# Altium schematic symbol library NOUMANPCBLIB.SchLib: 638 symbols (part 4 of 6)
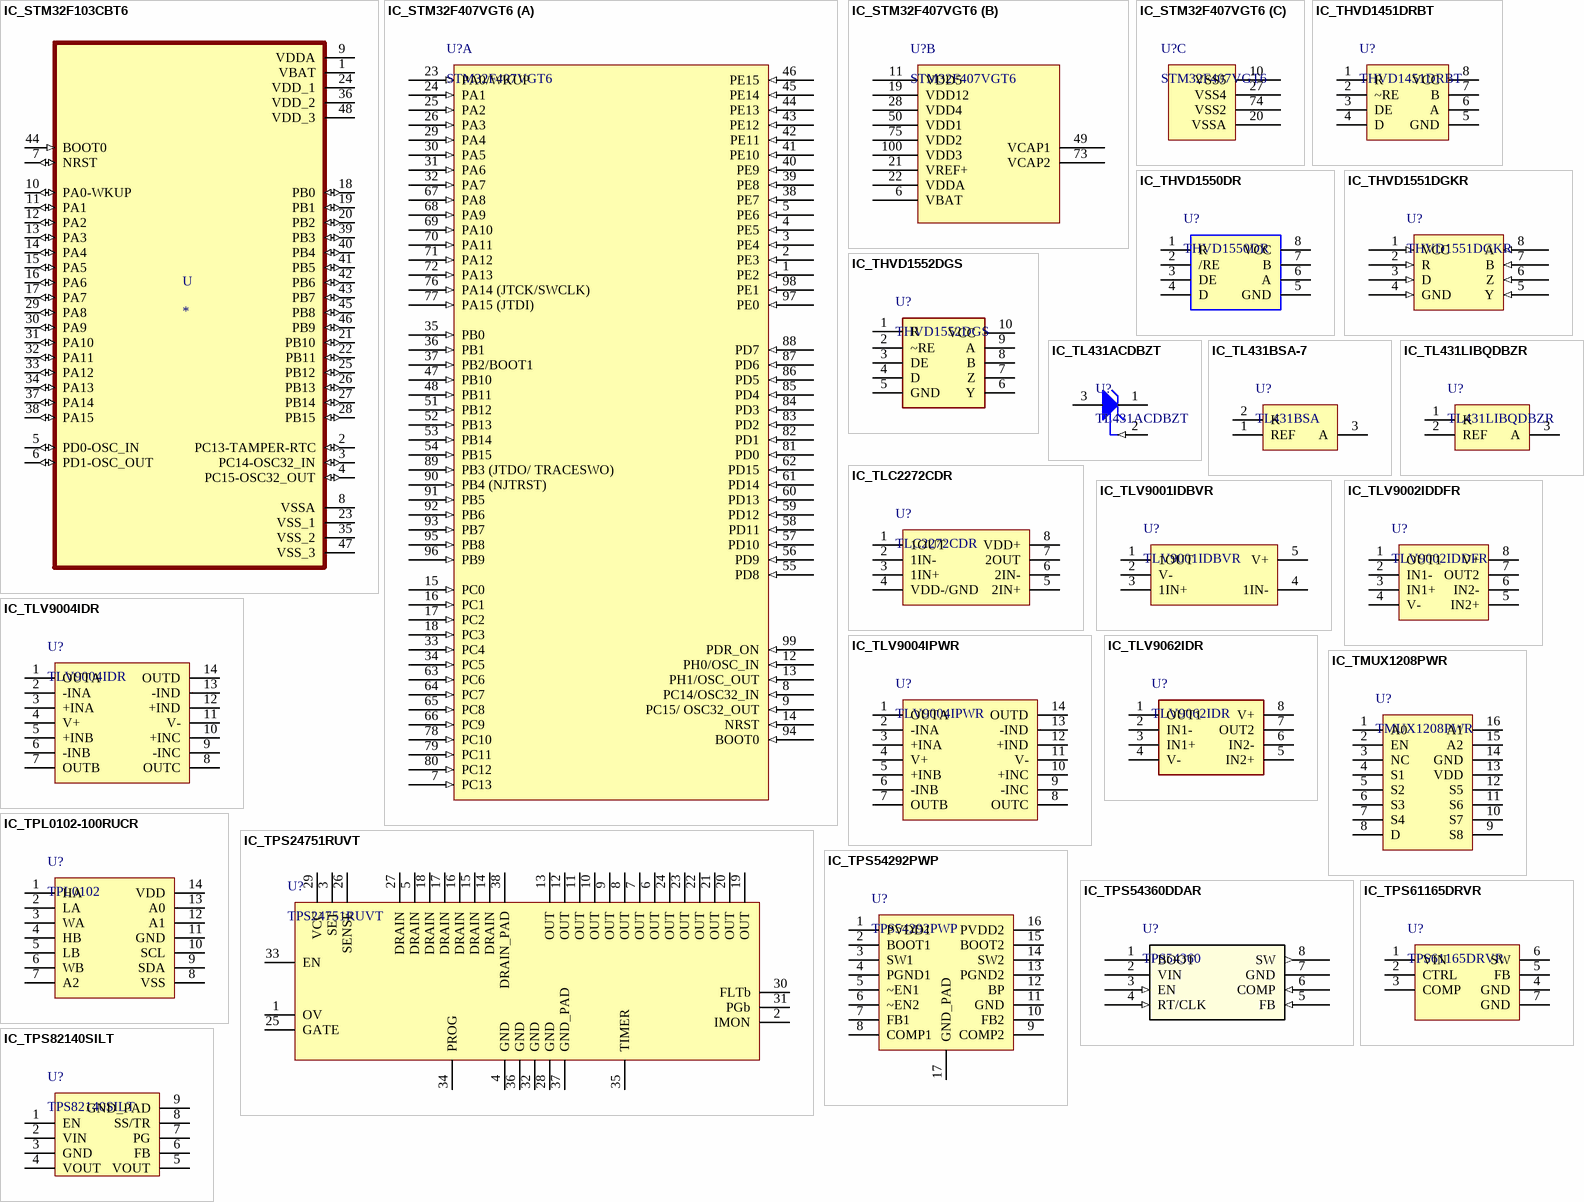
[diagram p21: symbols IC_STM32F103CBT6 to IC_TPS82140SILT]

## IC_TL431LIBQDBZR
designator U?, comment TL431LIBQDBZR
Shunt Voltage Reference IC 36V ±0.5% SOT-23-3; Manufacturer: Texas Instruments; Alternate Part Number-1: NA; Manufacturer Part Number: TL431LIBQDBZR; Case/Package: SOT-23-3; Supplier-1: Mouser; Supplier Part Number-1: 595-TL431LIBQDBZR
footprint SOT 23-3 (Case: SOT23)
pins: 1 K, 2 REF, 3 A

## IC_TLC2272CDR
designator U?, comment TLC2272CDR
General Purpose Amplifier 2 Circuit Rail-to-Rail 8-SOIC; Manufacturer: Texas Instruments; Alternate Part Number-1: NA; Manufacturer Part Number: TLC2272CDR; Case/Package: SOIC8; Supplier-1: LCSC; Supplier Part Number-1: C6979
footprint SOIC8_50_328_25X90_SMT (SOIC)
pins: 1 1OUT, 2 1IN-, 3 1IN+, 4 VDD-/GND, 5 2IN+, 6 2IN-, 7 2OUT, 8 VDD+

## IC_TLV9001IDBVR
designator U?, comment TLV9001IDBVR
CMOS Amplifier 1 Circuit Rail-to-Rail SOT-23-5; Manufacturer: Texas Instruments; Alternate Part Number-1: NA; Manufacturer Part Number: TLV9001IDBVR; Case/Package: SOT-23-5; Supplier-1: Mouser; Supplier Part Number-1: TLV9001IDBVR
footprint SOT23-5 (CASE: SOT)
pins: 1 1OUT, 2 V-, 3 1IN+, 4 1IN-, 5 V+

## IC_TLV9002IDDFR
designator U?, comment TLV9002IDDFR
Operational Amplifiers - Op Amps 2-Channel, 1MHz, RRIO, 1.8V to 5.5V Operational Amplifier for Cost-Optimized Systems 8-SOT-23-THIN -40 to 125; Manufacturer: Texas Instruments; Alternate Part Number-1: NA; Manufacturer Part Number: TLV9002IDDFR; Case/Package: SOT-23-8; Supplier-1: Mouser; Supplier Part Number-1: 595-TLV9002IDDFR
footprint SOT23-8 (Case-SOT)
pins: 1 OUT1, 2 IN1-, 3 IN1+, 4 V-, 5 IN2+, 6 IN2-, 7 OUT2, 8 V+

## IC_TLV9004IDR
designator U?, comment TLV9004IDR
CMOS Amplifier 4 Circuit Rail-to-Rail 14-SOIC; Manufacturer: Texas Instruments; Alternate Part Number-1: NA; Manufacturer Part Number: TLV9004IDR; Case/Package: 14-SOIC; Supplier-1: Digikey; Supplier Part Number-1: 296-51826-1-ND
footprint SOIC14_50_285_80X25_SMT (SOIC, 14-Leads, Body 8.56x3.90mm, Pitch 1.27mm, IPC Medium Density)
pins: 1 OUTA, 2 -INA, 3 +INA, 4 V+, 5 +INB, 6 -INB, 7 OUTB, 8 OUTC, 9 -INC, 10 +INC, 11 V-, 12 +IND, 13 -IND, 14 OUTD

## IC_TLV9004IPWR
designator U?, comment TLV9004IPWR
CMOS Amplifier 4 Circuit Rail-to-Rail TSSOP14; Manufacturer: Texas Instruments; Alternate Part Number-1: NA; Manufacturer Part Number: TLV9004IPWR; Case/Package: TSSOP14; Supplier-1: MOUSER; Supplier Part Number-1: TLV9004IPWR
footprint TSSOP14_25.6_296_15X55_SMD (CASE: TSSOP)
pins: 1 OUTA, 2 -INA, 3 +INA, 4 V+, 5 +INB, 6 -INB, 7 OUTB, 8 OUTC, 9 -INC, 10 +INC, 11 V-, 12 +IND, 13 -IND, 14 OUTD

## IC_TLV9062IDR
designator U?, comment TLV9062IDR
CMOS Amplifier 2 Circuit Rail-to-Rail 8-VSSOP; Manufacturer: Texas Instruments; Alternate Part Number-1: NA; Manufacturer Part Number: TLV9062IDR; Case/Package: SOIC8; Supplier-1: MOUSER; Supplier Part Number-1: TLV9062IDR
footprint SOIC8_50_328_25X90_SMT (SOIC)
pins: 1 OUT1, 2 IN1-, 3 IN1+, 4 V-, 5 IN2+, 6 IN2-, 7 OUT2, 8 V+

## IC_TMUX1208PWR
designator U?, comment TMUX1208PWR
1 Circuit IC Switch 8:1 3Ohm (Typ) 16-TSSOP; Manufacturer: Texas Instruments; Alternate Part Number-1: NA; Manufacturer Part Number: TMUX1208PWR; Case/Package: TSSOP-16; Supplier-1: Mouser; Supplier Part Number-1: 595-TMUX1208PWR
footprint TSSOP16_25-59_294_54X14_SMT (TSOP, 16-Leads, Body 5.00x4.40mm, Pitch 0.65mm)
pins: 1 A0, 2 EN, 3 NC, 4 S1, 5 S2, 6 S3, 7 S4, 8 D, 9 S8, 10 S7, 11 S6, 12 S5, 13 VDD, 14 GND, 15 A2, 16 A1

## IC_TPL0102-100RUCR
designator U?, comment TPL0102
Digital Potentiometer 100k Ohm 2 Circuit 256 Taps I²C Interface 14-TSSOP; Manufacturer: Texas Instruments; Manufacturer Part Number: TPL0102-100QPWREP; Alternate Part Number-1: NA; Case/Package: TSSOP14; Supplier-1: Mouser; Supplier Part Number-1: 595-TPL0102100QPWREP
footprint TSSOP14_25.6_296_15X55_SMD (CASE: TSSOP)
pins: 1 HA, 2 LA, 3 WA, 4 HB, 5 LB, 6 WB, 7 A2, 8 VSS, 9 SDA, 10 SCL, 11 GND, 12 A1, 13 A0, 14 VDD

## IC_TPS24751RUVT
designator U?, comment TPS24751RUVT
Hot Swap Controller 1 Channel General Purpose 36-VQFN (7x3.5); Manufacturer: Texas Instruments; Alternate Part Number-1: NA; Manufacturer Part Number: TPS24751RUVT; Case/Package: 36-VFQFN Exposed Pad; Supplier-1: Arrow; Supplier Part Number-1: TPS24751RUVT
footprint VQFN36_19.6_332_11X39_SMD (QFN, 36-Leads, Body 7.15x3.65mm, Pitch 0.50mm, Thermal Pad 6.30x2.20mm, IPC Medium Density)
pins: 1 OV, 2 IMON, 3 SET, 4 GND, 5 DRAIN, 6 OUT, 7 OUT, 8 OUT, 9 OUT, 10 OUT, 11 OUT, 12 OUT, 13 OUT, 14 DRAIN, 15 DRAIN, 16 DRAIN, 17 DRAIN, 18 DRAIN, 19 OUT, 20 OUT, 21 OUT, 22 OUT, 23 OUT, 24 OUT, 25 GATE, 26 SENSE, 27 DRAIN, 28 GND, 29 VCC, 30 FLTb, 31 PGb, 32 GND, 33 EN, 34 PROG, 35 TIMER, 36 GND, 37 GND_PAD, 38 DRAIN_PAD

## IC_TPS54292PWP
designator U?, comment TPS54292PWP
Buck Switching Regulator IC Positive Adjustable 0.8V 2 Output 1.5A, 2.5A 16-PowerTSSOP (0.173", 4.40mm Width); Manufacturer: Texas Instruments; Alternate Part Number-1: NA; Manufacturer Part Number: TPS54292PWP; Case/Package: HTSSOP EP-16; Supplier-1: MOUSER; Supplier Part Number-1: TPS54292PWP
footprint HTSSOP-16_26_307_59X17_SMD (16-PowerTSSOP)
pins: 1 PVDD1, 2 BOOT1, 3 SW1, 4 PGND1, 5 ~EN1, 6 ~EN2, 7 FB1, 8 COMP1, 9 COMP2, 10 FB2, 11 GND, 12 BP, 13 PGND2, 14 SW2, 15 BOOT2, 16 PVDD2, 17 GND_PAD

## IC_TPS54360DDAR
designator U?, comment TPS54360
Buck, Split Rail Switching Regulator IC Positive Adjustable 0.8V 1 Output 3.5A 8-PowerSOIC (0.154", 3.90mm Width); Manufacturer: Texas Instruments; Manufacturer Part Number: TPS54360DDAR; Alternate Part Number-1: NA; Case/Package: SOIC8; Supplier-1: LCSC; Supplier Part Number-1: C44377
footprint SOIC8_50_328_25X90_SMT (SOIC)
pins: 1 BOOT, 2 VIN (power), 3 EN (in), 4 RT/CLK (in), 5 FB (in), 6 COMP (in), 7 GND (power), 8 SW (out)

## IC_TPS61165DRVR
designator U?, comment TPS61165DRVR
LED Driver IC 1 Output DC DC Regulator Step-Up (Boost) PWM Dimming 1.2A (Switch) 6-WSON (2x2); Manufacturer: Texas Instruments; Alternate Part Number-1: NA; Manufacturer Part Number: TPS61165DRVR; Case/Package: WSON-6; Supplier-1: Digikey; Supplier Part Number-1: TPS61165DRVR
footprint WSON-6_25_126_23X13_SMD (diode)
pins: 1 VIN, 2 CTRL, 3 COMP, 4 GND, 5 FB, 6 SW, 7 GND

## IC_TPS82140SILT
designator U?, comment TPS82140SILT
Non-Isolated PoL Module DC DC Converter 1 Output 0.9 ~ 6V 2A 3V - 17V Input; Manufacturer: Texas Instruments; Alternate Part Number-1: NA; Manufacturer Part Number: TPS82140SILT; Case/Package: SIL0008D; Supplier-1: RS COMP; Supplier Part Number-1: TPS82140SILT
footprint SIL0008D_25.6_118_19x15_SMD (8-LDFN Exposed Pad, Module)
pins: 1 EN, 2 VIN, 3 GND, 4 VOUT, 5 VOUT, 6 FB, 7 PG, 8 SS/TR, 9 GND_PAD

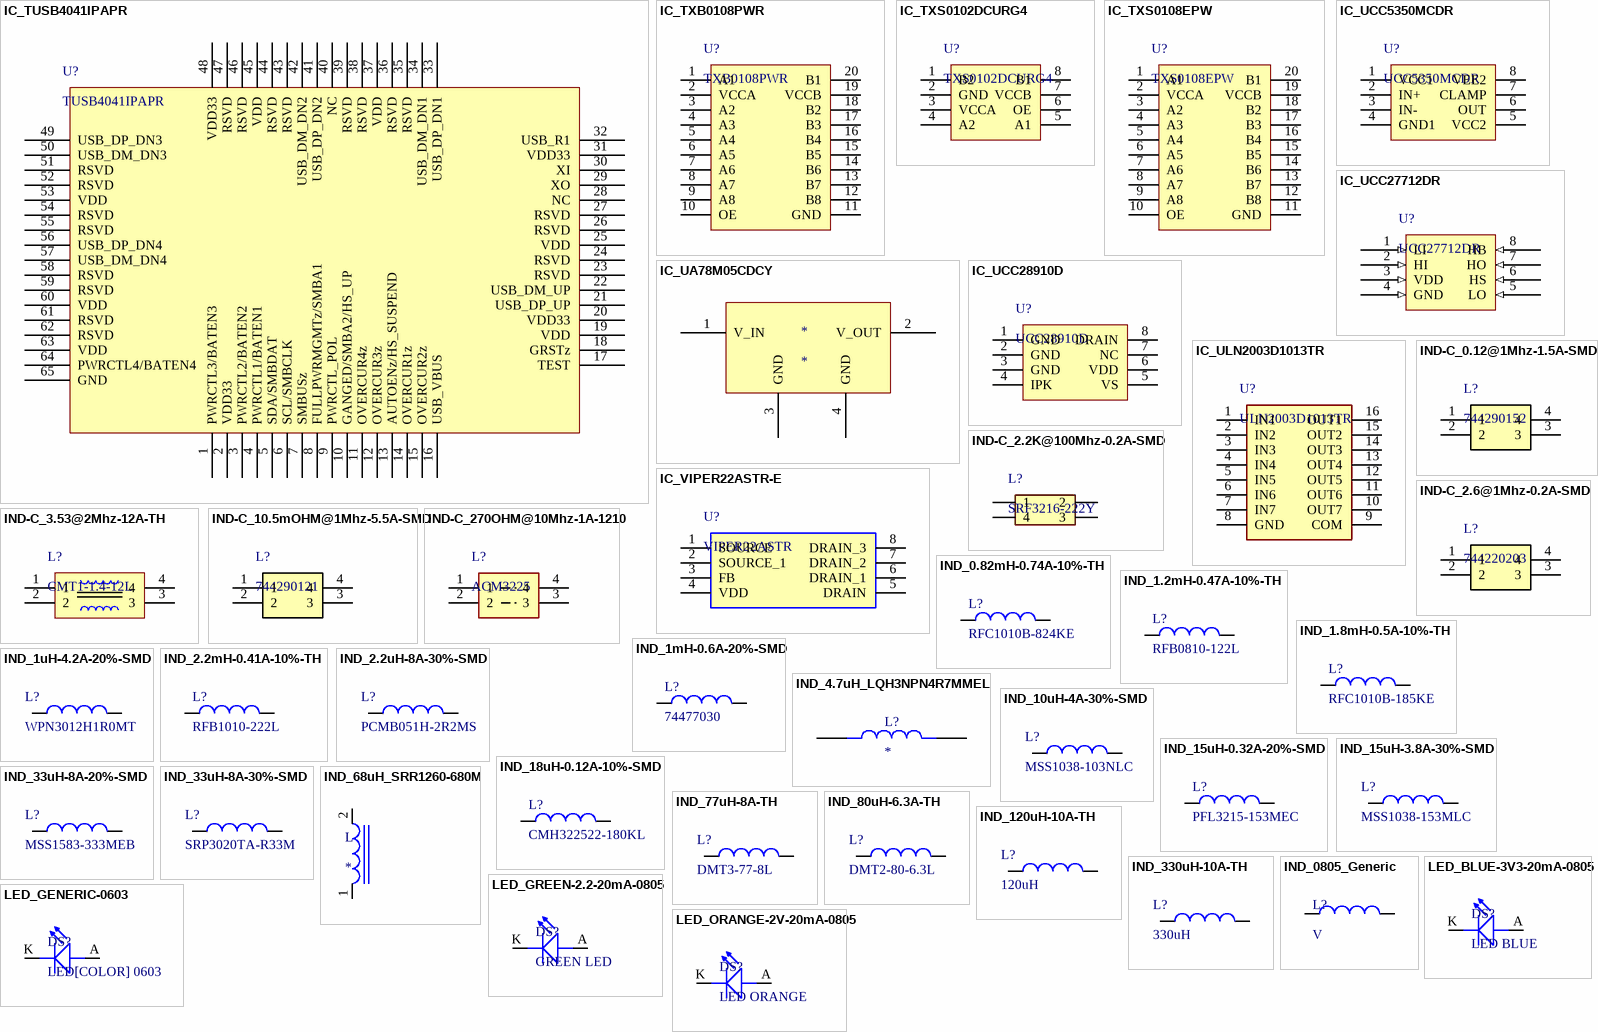
[diagram p11: symbols IC_TUSB4041IPAPR to LED_ORANGE-2V-20mA-0805]

## IC_TUSB4041IPAPR
designator U?, comment TUSB4041IPAPR
USB Hub Controller USB 2.0 USB Interface 64-HTQFP (10x10); Manufacturer: Texas Instruments; Alternate Part Number-1: NA; Manufacturer Part Number: TUSB4041IPAPR; Case/Package: 64-HTQFP (10x10); Supplier-1: LCSC; Supplier Part Number-1: C192089
footprint HTQFP-64_19.6_531_59X11_SMD (HTQFP package)
pins: 1 PWRCTL3/BATEN3, 2 VDD33, 3 PWRCTL2/BATEN2, 4 PWRCTL1/BATEN1, 5 SDA/SMBDAT, 6 SCL/SMBCLK, 7 SMBUSz, 8 FULLPWRMGMTz/SMBA1, 9 PWRCTL_POL, 10 GANGED/SMBA2/HS_UP , 11 OVERCUR4z, 12 OVERCUR3z, 13 AUTOENz/HS_SUSPEND, 14 OVERCUR1z, 15 OVERCUR2z , 16 USB_VBUS, 17 TEST, 18 GRSTz, 19 VDD, 20 VDD33, 21 USB_DP_UP, 22 USB_DM_UP, 23 RSVD, 24 RSVD, 25 VDD, 26 RSVD, 27 RSVD, 28 NC, 29 XO, 30 XI, 31 VDD33, 32 USB_R1, 33 USB_DP_DN1, 34 USB_DM_DN1, 35 RSVD, 36 RSVD, 37 VDD, 38 RSVD, 39 RSVD, 40 NC, 41 USB_DP_DN2, 42 USB_DM_DN2, 43 RSVD, 44 RSVD, 45 VDD, 46 RSVD, 47 RSVD, 48 VDD33, 49 USB_DP_DN3, 50 USB_DM_DN3, 51 RSVD, 52 RSVD, 53 VDD, 54 RSVD, 55 RSVD, 56 USB_DP_DN4, 57 USB_DM_DN4, 58 RSVD, 59 RSVD, 60 VDD, 61 RSVD, 62 RSVD, 63 VDD, 64 PWRCTL4/BATEN4, 65 GND

## IC_TXB0108PWR
designator U?, comment TXB0108PWR
Voltage Level Translator Bidirectional 1 Circuit 8 Channel 100Mbps 20-TSSOP; Manufacturer: Texas Instruments; Alternate Part Number-1: NA; Manufacturer Part Number: TXB0108PWR; Case/Package: TSSOP20; Supplier-1: Mouser; Supplier Part Number-1: 595-TXB0108PWR
footprint TSSOP20_25-59_292_12X65_SMT
pins: 1 A1, 2 VCCA, 3 A2, 4 A3, 5 A4, 6 A5, 7 A6, 8 A7, 9 A8, 10 OE, 11 GND, 12 B8, 13 B7, 14 B6, 15 B5, 16 B4, 17 B3, 18 B2, 19 VCCB, 20 B1

## IC_TXS0102DCURG4
designator U?, comment TXS0102DCURG4
Voltage Level Translator Bidirectional 1 Circuit 2 Channel 24Mbps 8-VSSOP; Manufacturer: Texas Instruments; Alternate Part Number-1: NA; Manufacturer Part Number: TXS0102DCURG4; Case/Package: VSSOP8; Supplier-1: Mouser; Supplier Part Number-1: TXS0102DCURG4
footprint VSSOP-8_19.6_157_33X11_SMD (VSSOP)
pins: 1 B2, 2 GND, 3 VCCA, 4 A2, 5 A1, 6 OE, 7 VCCB, 8 B1

## IC_TXS0108EPW
designator U?, comment TXS0108EPW
TXS0108E 8-Bit Bi-directional, Level-Shifting, Voltage Translator / for Open-Drain and Push-Pull Applications; Manufacturer: Texas Instruments; Alternate Part Number-1: NA; Manufacturer Part Number: TXS0108EPW; Case/Package: TSSOP-20; Supplier-1: Mouser; Supplier Part Number-1: 595-TXS0108EPWRG4
footprint TSSOP20_25-59_292_12X65_SMT
pins: 1 A1, 2 VCCA, 3 A2, 4 A3, 5 A4, 6 A5, 7 A6, 8 A7, 9 A8, 10 OE, 11 GND, 12 B8, 13 B7, 14 B6, 15 B5, 16 B4, 17 B3, 18 B2, 19 VCCB, 20 B1

## IC_UA78M05CDCY
designator *
Linear Voltage Regulator IC Positive Fixed 1 Output 500mA SOT-223-4 (in max 25v) (out 5v); Manufacturer Part Number: UA78M05CDCYR; Manufacturer: Texas Instruments; Supplier-1: Digi-key; Supplier Part Number-1: 296-12290-2-ND - Tape & Reel (TR)
footprint SOT230P700X187-4N (SOT223, 4-Leads, Body 6.50x7.00mm (avg), Pitch 2.30mm, IPC Medium Density)
pins: 1 V_IN, 2 V_OUT, 3 GND, 4 GND

## IC_UCC5350MCDR
designator U?, comment UCC5350MCDR
Gate Driver Capacitive Coupling 3000Vrms 1 Channel 8-SOIC; Manufacturer: Texas Instruments; Alternate Part Number-1: NA; Manufacturer Part Number: UCC5350MCDR; Case/Package: SOIC8; Supplier-1: MOUSER; Supplier Part Number-1: UCC5350MCDR
footprint SOIC8_50_328_25X90_SMT (SOIC)
pins: 1 VCC1, 2 IN+, 3 IN-, 4 GND1, 5 VCC2, 6 OUT, 7 CLAMP, 8 VEE2

## IC_UCC27712DR
designator U?, comment UCC27712DR
Half-Bridge Gate Driver IC 8-SOIC; Manufacturer: Texas Instruments; Alternate Part Number-1: NA; Manufacturer Part Number: UCC27712DR; Case/Package: SOIC8; Supplier-1: LCSC; Supplier Part Number-1: C269870
footprint SOIC8_50_328_25X90_SMT (SOIC)
pins: 1 LI (in), 2 HI (in), 3 VDD (in), 4 GND (in), 5 LO (in), 6 HS (in), 7 HO (in), 8 HB (in)

## IC_UCC28910D
designator U?, comment UCC28910D
Converter Offline Flyback Topology 420Hz ~ 115kHz 7-SOIC; Manufacturer: Texas Instruments; Alternate Part Number-1: NA; Manufacturer Part Number: UCC28910D; Case/Package: SOIC8; Supplier-1: ARROW; Supplier Part Number-1: UCC28910D
footprint SOIC8_50_328_25X90_SMT (SOIC)
pins: 1 GND, 2 GND, 3 GND, 4 IPK, 5 VS, 6 VDD, 7 NC, 8 DRAIN

## IC_ULN2003D1013TR
designator U?, comment ULN2003D1013TR
Bipolar (BJT) Transistor Array 7 NPN Darlington 50V 500mA Surface Mount 16-SO; Manufacturer: STMicroelectronics; Alternate Part Number-1: NA; Manufacturer Part Number: ULN2003D1013TR; Case/Package: SOIC16; Supplier-1: LCSC; Supplier Part Number-1: C61273
footprint SOIC16_50_284_25X90_SMT
pins: 1 IN1, 2 IN2, 3 IN3, 4 IN4, 5 IN5, 6 IN6, 7 IN7, 8 GND, 9 COM, 10 OUT7, 11 OUT6, 12 OUT5, 13 OUT4, 14 OUT3, 15 OUT2, 16 OUT1

## IC_VIPER22ASTR-E
designator U?, comment VIPER22ASTR
Converter Offline Flyback Topology 60kHz 8-SOIC; Manufacturer: STMicroelectronics; Manufacturer Part Number: VIPER22ASTR-E; Alternate Part Number-1: NA; Case/Package: SOIC8; Supplier-1: LCSC; Supplier Part Number-1: C9216
footprint SOIC8_50_328_25X90_SMT (SOIC)
pins: 1 SOURCE, 2 SOURCE_1, 3 FB, 4 VDD (power), 5 DRAIN, 6 DRAIN_1, 7 DRAIN_2, 8 DRAIN_3

## IND-C_0.12@1Mhz-1.5A-SMD
designator L?, comment 744290152
1.5mH @ 10kHz 2 Line Common Mode Choke Surface Mount 1.5A DCR 120mOhm; Manufacturer: WE; Alternate Part Number-1: NA; Manufacturer Part Number: 744290152; Case/Package: SMD; Supplier-1: WURTH; Supplier Part Number-1: 744290152
footprint IND_100_705_63X110_SMD (CASE: SMD)
pins: 1, 2, 3, 4

## IND-C_2.2K@100Mhz-0.2A-SMD
designator L?, comment SRF3216-222Y
2 Line Common Mode Choke Surface Mount 2.2 kOhms @ 100MHz 200mA DCR 1.2Ohm; Manufacturer: WE; Alternate Part Number-1: NA; Manufacturer Part Number: SRF3216-222Y; Case/Package: SMD; Supplier-1: ARROW; Supplier Part Number-1: SRF3216-222Y
footprint IND_39.3_150_23X35_SMD (Inductor)
pins: 1, 2, 3, 4

## IND-C_2.6@1Mhz-0.2A-SMD
designator L?, comment 744220203
WE-SL2 SMD inductance with ferrite core, 4.7 mH / ± 50%, 100kHz 500mA; Manufacturer: Bourns; Alternate Part Number-1: NA; Manufacturer Part Number: 744220203; Case/Package: SMD; Supplier-1: WURTH; Supplier Part Number-1: 744220203
footprint IND_100_410_59X110_SMD (CASE: SMD)
pins: 1, 2, 3, 4

## IND-C_3.53@2Mhz-12A-TH
designator L?, comment CMT1-1.4-12L
IND-C_3.53@2Mhz-12A-TH; Manufacturer: WE; Alternate Part Number-1: NA; Manufacturer Part Number: CMT1-1.4-12L; Case/Package: TH; Supplier-1: COILCRAFT SAMPLE; Supplier Part Number-1: CMT1-1.4-12L
footprint CMT1_1.4_12L
pins: 1, 2, 3, 4

## IND-C_10.5mOHM@1Mhz-5.5A-SMD
designator L?, comment 744290121
120µH @ 10kHz 2 Line Common Mode Choke Surface Mount 5.5A DCR 10.5mOhm; Manufacturer: TDK; Alternate Part Number-1: NA; Manufacturer Part Number: 744290121; Case/Package: SMD; Supplier-1: WURTH; Supplier Part Number-1: 744290121
footprint IND_100_705_63X110_SMD (CASE: SMD)
pins: 1, 2, 3, 4

## IND-C_270OHM@10Mhz-1A-1210
designator L?, comment ACM3225
2 Line Common Mode Choke Surface Mount 600 Ohms @ 100MHz 1A DCR 200mOhm; Manufacturer: Coilcraft; Manufacturer Part Number: ACM3225-601-2P-T001; Alternate Part Number-1: NA; Case/Package: 1210; Supplier-1: Coilcraft; Supplier Part Number-1: ACM3225-601-2P-T001
footprint IND_1206_SMD_4PIN (CASE: SMD)
pins: 1, 2, 3, 4

## IND_0.82mH-0.74A-10%-TH
designator L?, comment RFC1010B-824KE
Fixed Inductors AEC-Q200 1200uH 100kHz 2.1mOhms; Manufacturer: Coilcraft; Alternate Part Number-1: NA; Manufacturer Part Number: RFC1010B-824KE; Case/Package: TH; Supplier-1: COILCRAFT SAMPLE; Supplier Part Number-1: RFC1010B-824KE
footprint IND_P236_D433_H452_70X59_TH (Inductor)
pins: 1, 2

## IND_1.2mH-0.47A-10%-TH
designator L?, comment RFB0810-122L
Fixed Inductors RFB0810 AEC-Q200 100kHz 2.8mOhms; Manufacturer: Coilcraft; Alternate Part Number-1: NA; Manufacturer Part Number: RFB0810-122L; Case/Package: TH; Supplier-1: COILCRAFT SAMPLE; Supplier Part Number-1: RFB0810-122L
footprint IND_P220_D378_H452_70X59_TH (Inductor)
pins: 1, 2

## IND_1.8mH-0.5A-10%-TH
designator L?, comment RFC1010B-185KE
Fixed Inductors AEC-Q200 1800uH 100kHz 3.5mOhms; Manufacturer: Coilcraft; Alternate Part Number-1: NA; Manufacturer Part Number: RFC1010B-185KE; Case/Package: TH; Supplier-1: COILCRAFT SAMPLE; Supplier Part Number-1: RFC1010B-185KE
footprint IND_P236_D433_H452_70X59_TH (Inductor)
pins: 1, 2

## IND_1mH-0.6A-20%-SMD
designator L?, comment 74477030
1mH Shielded Wirewound Inductor 600mA 1.82Ohm Max Nonstandard; Manufacturer: Coilcraft; Alternate Part Number-1: NA; Manufacturer Part Number: 74477030; Case/Package: SMD; Supplier-1: WURTH; Supplier Part Number-1: 74477030
footprint IND_400_500_212x114_SMD (wurth inductor)
pins: 1, 2

## IND_1uH-4.2A-20%-SMD
designator L?, comment WPN3012H1R0MT
Fixed Inductors WPN3012H1R0MT 100kHz; Manufacturer: Sunlord; Alternate Part Number-1: NA; Manufacturer Part Number: WPN3012H1R0MT; Case/Package: SMD; Supplier-1: NA; Supplier Part Number-1: NA
footprint IND_90.5_141.7_125X31_SMD (Inductor)
pins: 1, 2

## IND_2.2mH-0.41A-10%-TH
designator L?, comment RFB1010-222L
Fixed Inductors AEC-Q200 2200uH 100kHz 4.1mOhms; Manufacturer: Coilcraft; Alternate Part Number-1: NA; Manufacturer Part Number: RFB1010-222L; Case/Package: TH; Supplier-1: ARROW; Supplier Part Number-1: RFB1010-222L
footprint IND_P236_D433_H452_70X59_TH (Inductor)
pins: 1, 2

## IND_2.2uH-8A-30%-SMD
designator L?, comment PCMB051H-2R2MS
Fixed Inductors PCMB051H-2R2MS Shielded 2.2 uH 30 % 8A; Manufacturer: susumu; Alternate Part Number-1: NA; Manufacturer Part Number: PCMB051H-2R2MS; Case/Package: SMD; Supplier-1: NA; Supplier Part Number-1: NA
footprint IND_259_338_140X70_SMD (Inductor)
pins: 1, 2

## IND_4.7uH_LQH3NPN4R7MMEL
designator L?
Inductor with Inductance: 4.7uH Tol. +/-20%, Package: 1212 _3030_; MF: Murata; MP: LQH3NPN4R7MMEL; Package: NONSTANDARD; Digi-Key_Part_Number: 490-15954-1-ND; Value: *; SnapEDA_Link: https://www.snapeda.com/parts/LQH3NPN4R7MMEL/Murata/view-part/4549398/?ref=snap; Digi-Key_Purchase_URL: https://www.digikey.com/product-detail/en/murata-electronics/LQH3NPN4R7MMEL/490-15954-1-ND/6800619?utm_source=snapeda&utm_medium=aggregator&utm_campaign=symbol
footprint IND_LQH3NPN4R7MMEL
pins: 1, 2

## IND_10uH-4A-30%-SMD
designator L?, comment MSS1038-103NLC
Fixed Inductors MSS1038 SMT Shielded 10 uH 30 % 4.05 A; Manufacturer: Coilcraft; Alternate Part Number-1: NA; Manufacturer Part Number: MSS1038-103NLC; Case/Package: SMD; Supplier-1: COILCRAFT SAMPLE; Supplier Part Number-1: MSS1038-103NLB
footprint IND_370_401_140X70_SMD (SMD INDUCTOR)
pins: 1, 2

## IND_15uH-0.32A-20%-SMD
designator L?, comment PFL3215-153MEC
Fixed Inductors, shielded, 20% tol, SMT, RoHS, halogen-free; Manufacturer: Coilcraft; Manufacturer Part Number: PFL3215-153MEB; Alternate Part Number-1: NA; Case/Package: SMD; Supplier-1: COILCRAFT SAMPLE; Supplier Part Number-1: PFL3215-153MEB
footprint IND_107_149_100X35_SMD (Inductor)
pins: 1, 2

## IND_15uH-3.8A-30%-SMD
designator L?, comment MSS1038-153MLC
Fixed Inductors MSS1038 SMT Shielded 15 uH 20 % 3.8 A; Manufacturer: Bourns; Alternate Part Number-1: NA; Manufacturer Part Number: MSS1038-153MLC; Case/Package: SMD; Supplier-1: COILCRAFT SAMPLE; Supplier Part Number-1: MSS1038-153MLC
footprint IND_370_401_140X70_SMD (SMD INDUCTOR)
pins: 1, 2

## IND_18uH-0.12A-10%-SMD
designator L?, comment CMH322522-180KL
Fixed Inductors 18uH 10% 2.52MHz; Manufacturer: Wurth Electronics; Alternate Part Number-1: NA; Manufacturer Part Number: CMH322522-180KL; Case/Package: SMD; Supplier-1: ARROW; Supplier Part Number-1: CMH322522-180KL
footprint IND_1210 (Inductor)
pins: 1, 2

## IND_33uH-8A-20%-SMD
designator L?, comment MSS1583-333MEB
Fixed Inductors MSS1583 SMT Power 0.038Ohms 33uH; Manufacturer: Coilcraft; Alternate Part Number-1: NA; Manufacturer Part Number: MSS1583-333MEB; Case/Package: SMD; Supplier-1: COILCRAFT SAMPLE; Supplier Part Number-1: MSS1583-333MEB
footprint IND_456_640_236X117_SMD (SMD Inductor on Sunrom)
pins: 1, 2

## IND_33uH-8A-30%-SMD
designator L?, comment SRP3020TA-R33M
Fixed Inductors 0.33uH 20% 8A; Manufacturer: Coilcraft; Alternate Part Number-1: NA; Manufacturer Part Number: SRP3020TA-R33M; Case/Package: SMD; Supplier-1: COILCRAFT SAMPLE; Supplier Part Number-1: SER2918H-333KL
footprint IND_456_640_236X117_SMD (SMD Inductor on Sunrom)
pins: 1, 2

## IND_68uH_SRR1260-680M
designator L
68ÂµH Shielded Wirewound Inductor 2.1A 110mOhm Max Nonstandard; MF: Bourns; MP: SRR1260-680M; Package: Nonstandard Bourns; Value: *; Digi-Key_Purchase_URL: https://www.digikey.com/product-detail/en/bourns-inc/SRR1260-680M/SRR1260-680MCT-ND/2127423?utm_source=snapeda&utm_medium=aggregator&utm_campaign=symbol; Digi-Key_Part_Number: SRR1260-680MCT-ND; SnapEDA_Link: https://www.snapeda.com/parts/SRR1260-680M/Bourns/view-part/337191/?ref=snap
footprint INDP125125X600N
pins: 1, 2

## IND_77uH-8A-TH
designator L?, comment DMT3-77-8L
Fixed Inductors DMT1 Power Chokes Toroidal Output; Manufacturer: Coilcraft; Alternate Part Number-1: NA; Manufacturer Part Number: DMT3-77-8L; Case/Package: TH; Supplier-1: COILCRAFT SAMPLE; Supplier Part Number-1: DMT3-77-8L
footprint DMT3_77_8L (CASE: TH)
pins: 1, 4

## IND_80uH-6.3A-TH
designator L?, comment DMT2-80-6.3L
Fixed Inductors DMT1 Power Chokes Toroidal Output; Manufacturer: Bourns; Alternate Part Number-1: NA; Manufacturer Part Number: DMT2-80-6.3L; Case/Package: TH; Supplier-1: COILCRAFT SAMPLE; Supplier Part Number-1: DMT2-80-6.3L
footprint DMT2_80_6.3L (CASE: TH)
pins: 1, 4

## IND_120uH-10A-TH
designator L?, comment 120uH
IND_120uH-10A-0.06@4.6MHz-TH; Manufacturer Part Number: NA; Case/Package: TH; Manufacturer: NA; Supplier-1: SP ROAD; Supplier Part Number-1: NA; Alternate Part Number-1: NA
footprint IND_30.1MM_TH
pins: 1, 2

## IND_330uH-10A-TH
designator L?, comment 330uH
330uH-10A-CHINESE INDUCTOR; Manufacturer Part Number: NA; Case/Package: TH; Manufacturer: NA; Supplier-1: SP ROAD; Supplier Part Number-1: NA; Alternate Part Number-1: NA
footprint IND_30.1MM_TH
pins: 1, 2

## IND_0805_Generic
designator L?, comment V
Manufacturer: Walsin; Manufacturer Part Number: WR08X1001FTL; Case/Package: 0805; Supplier-1: SP ROAD; Supplier Part Number-1: RC0805JR-071KL; Alternate Part Number-1: WR08X1001FTL
footprint RES_0805
pins: 1, 2

## LED_BLUE-3V3-20mA-0805
designator DS?, comment LED BLUE
Blue 470nm LED Indication - Discrete 3.3V 0805 (2012 Metric); Manufacturer: Vishay Lite-On; Manufacturer Part Number: LTST-C171TBKT; Alternate Part Number-1: NA; Case/Package: 0805; Supplier-1: SP ROAD; Supplier Part Number-1: LTST-C171TBKT
footprint LED_0805
pins: A ANODE, K CATHODE

## LED_GENERIC-0603
designator DS?, comment LED[COLOR] 0603
Manufacturer: Vishay Lite-On; Manufacturer Part Number: LTST-C170KFKT; Alternate Part Number-1: NA; Case/Package: 0805; Supplier-1: SP ROAD; Supplier Part Number-1: LTST-C170KFKT
footprint Wurth_0_MFG
pins: A ANODE, K CATHODE

## LED_GREEN-2.2-20mA-0805
designator DS?, comment GREEN LED
Green 569nm LED Indication - Discrete 2.1V 0805 (2012 Metric); Manufacturer: Vishay Lite-On; Manufacturer Part Number: LTST-C171GKT; Alternate Part Number-1: NA; Case/Package: 0805; Supplier-1: SP ROAD; Supplier Part Number-1: LTST-C171GKT
footprint LED_0805
pins: A ANODE, K CATHODE

## LED_ORANGE-2V-20mA-0805
designator DS?, comment LED ORANGE
Orange 605nm LED Indication - Discrete 2V 0805 (2012 Metric); Manufacturer: Vishay Lite-On; Manufacturer Part Number: LTST-C170KFKT; Alternate Part Number-1: NA; Case/Package: 0805; Supplier-1: SP ROAD; Supplier Part Number-1: LTST-C170KFKT
footprint LED_0805
pins: A ANODE, K CATHODE

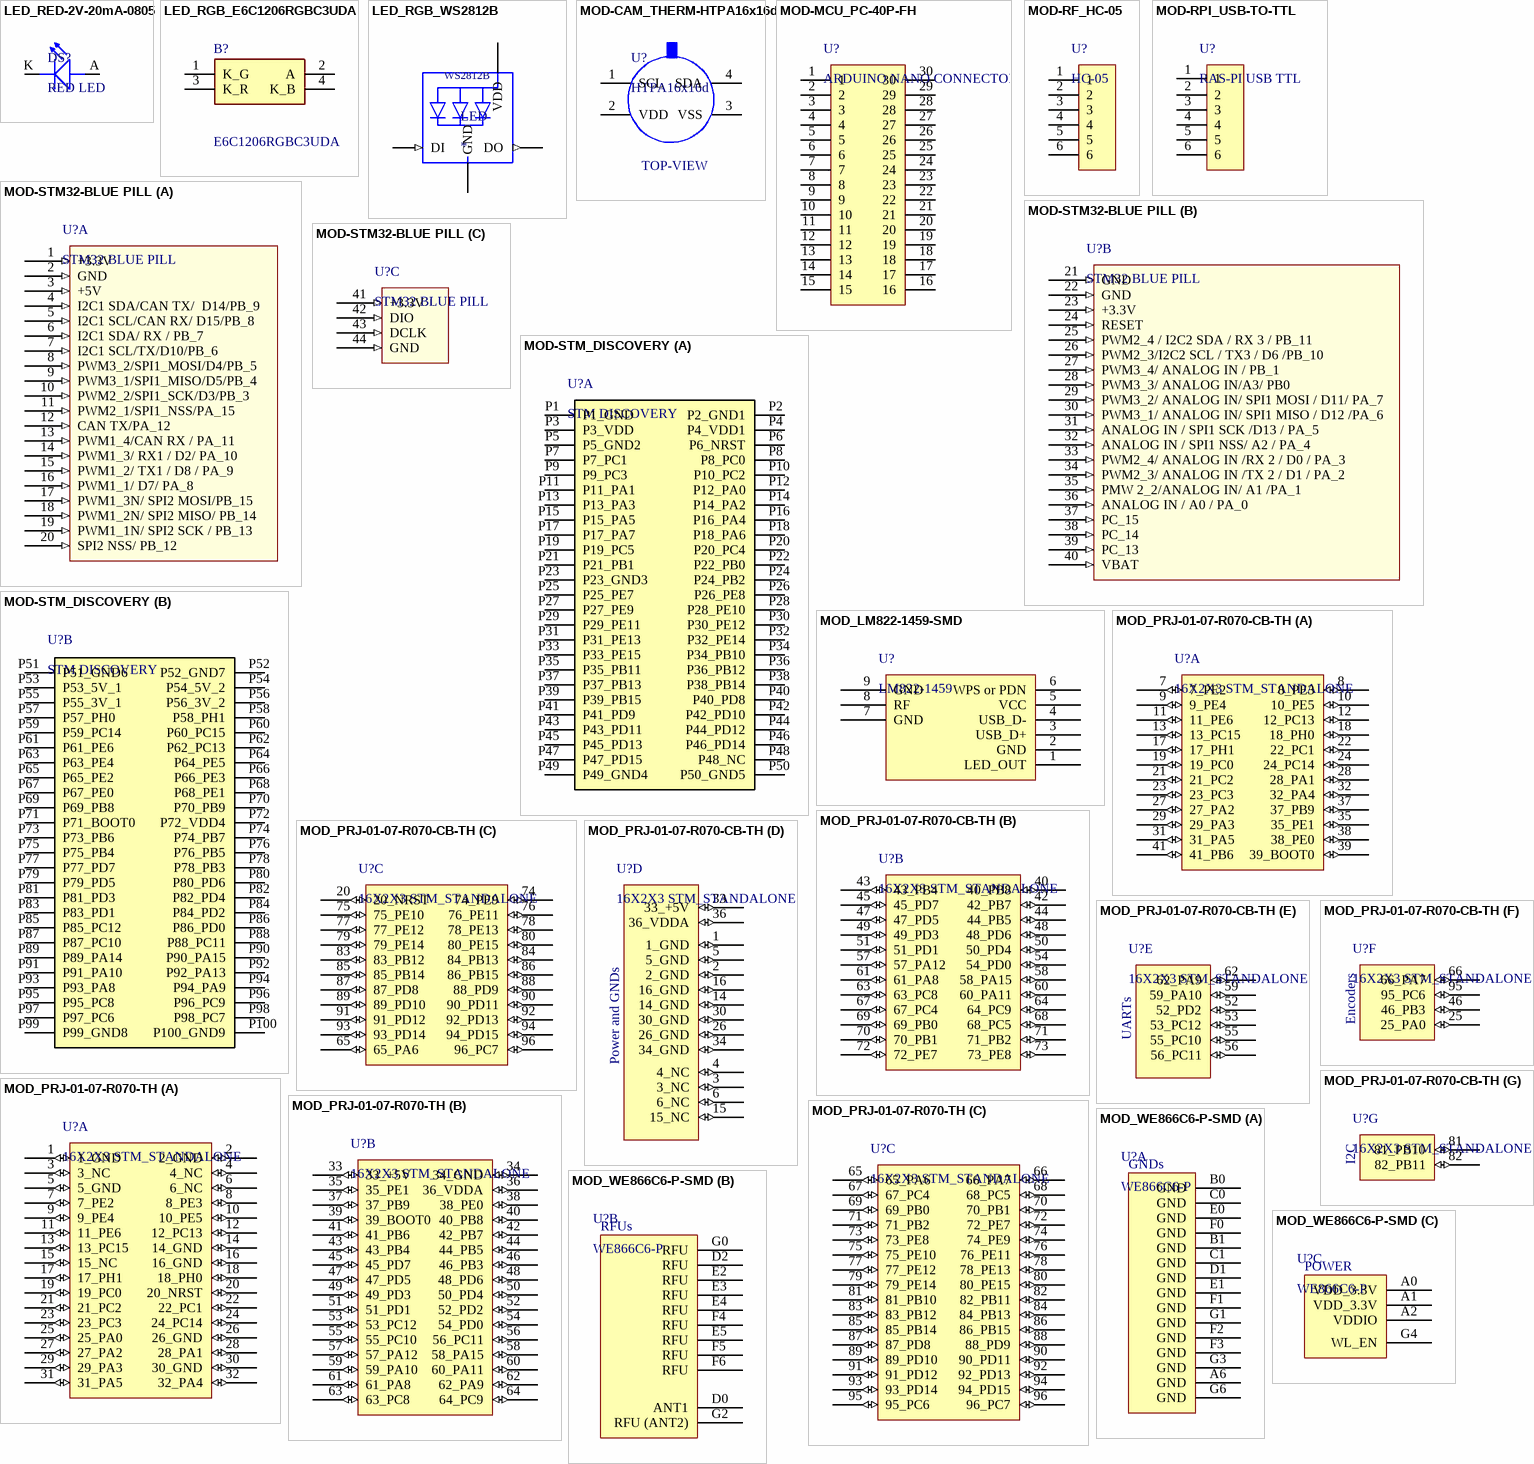
[diagram p12: symbols LED_RED-2V-20mA-0805 to MOD_WE866C6-P-SMD]

## LED_RED-2V-20mA-0805
designator DS?, comment RED LED
Red 631nm LED Indication - Discrete 2V 0805 (2012 Metric); Manufacturer: Vishay Lite-On; Manufacturer Part Number: LTST-C171KRKT; Alternate Part Number-1: NA; Case/Package: 0805; Supplier-1: SP ROAD; Supplier Part Number-1: LTST-C171KRKT
footprint LED_0805
pins: A ANODE, K CATHODE

## LED_RGB_E6C1206RGBC3UDA
designator B?, comment E6C1206RGBC3UDA
Manufacturer_Name: EKINGLUX; Geometry.Height: 1.1mm; Manufacturer_Part_Number: E6C1206RGBC3UDA; Mouser Part Number: *; Mouser Price/Stock: *; Arrow Part Number: *; Arrow Price/Stock: *; Datasheet Link: https://datasheet.lcsc.com/szlcsc/1912111437_EKINGLUX-E6C1206RGBC3UDA_C375571.pdf
footprint RGB-E6C1206RGBC3UDA
pins: 1 K_G, 2 A, 3 K_R, 4 K_B

## LED_RGB_WS2812B
designator LED
Raspberry Pi HAT _40 pin_ Wheeled Robotics Kit; MP: WS2812B; MF: SparkFun Electronics; Availability: Unavailable; SnapEDA_Link: https://www.snapeda.com/parts/WS2812B/Worldsemi/view-part/1038297/?ref=snap; Price: None; Value: *; Package: None
footprint WS2812B
pins: 1-VDD VDD (power), 2-DOUT DO (out), 3-GND GND (power), 4-DIN DI (in)

## MOD-CAM_THERM-HTPA16x16d
designator U?, comment HTPA16x16d
Heimann HTPA 16x16 Camera; Manufacturer: Heimann sensor; Alternate Part Number-1: NA; Manufacturer Part Number: HTPA16x1; Case/Package: TH; Supplier-1: Chinese Manufacturer; Supplier Part Number-1: HTPA16x1
footprint MOD_HTPA16x16d_TH (CASE: TH)
pins: 1 SCL, 2 VDD, 3 VSS, 4 SDA
text: TOP-VIEW

## MOD-MCU_PC-40P-FH
designator U?, comment ARDUINO NANO CONNECTOR
40pin Female Berg strip - Straight Female Headers; Manufacturer Part Number: PC-40p-FH; Manufacturer: Electron Components; Alternate Part Number-1: NA; Case/Package: TH; Supplier-1: SP ROAD; Supplier Part Number-1: PC-40p-FH
footprint MOD_PC-40P-FH_TH (Arduino Nano)
pins: 1, 2, 3, 4, 5, 6, 7, 8, 9, 10, 11, 12, 13, 14, 15, 16, 17, 18, 19, 20, 21, 22, 23, 24, 25, 26, 27, 28, 29, 30

## MOD-RF_HC-05
designator U?, comment HC-05
6 PIN FEMALE BERG STRIP for Serial Bluetooth module; Manufacturer: GFSK INC; Alternate Part Number-1: NA; Manufacturer Part Number: HC-05; Case/Package: TH; Supplier-1: SP ROAD; Supplier Part Number-1: HC-05
footprint MOD_HC-05_TH_ST (Berg Strip)
footprint MOD_HC-05_TH_RA (Berg Strip)
pins: 1, 2, 3, 4, 5, 6

## MOD-RPI_USB-TO-TTL
designator U?, comment RAS-PI USB TTL
Male Header Pin (Male Berg Strip); Manufacturer: KEMET; Alternate Part Number-1: NA; Manufacturer Part Number: RKI-1140; Case/Package: TH; Supplier-1: SP ROAD; Supplier Part Number-1: RKI-1140
footprint MOD_USB-TO-TTL_TH (RPI TO TTL BERG STRIP)
pins: 1, 2, 3, 4, 5, 6

## MOD-STM32-BLUE PILL
designator U?, comment STM32 BLUE PILL
Manufacturer Part Number: NA; Case/Package: TH; Manufacturer: NA; Supplier-1: SP ROAD; Supplier Part Number-1: NA; Alternate Part Number-1: NA
footprint MOD_STM-BLUE-PILL (Berg Strip for STMBLUEPILL)
part A pins: 1 +3.3V (in), 2 GND (in), 3 +5V (in), 4 I2C1 SDA/CAN TX/  D14/PB_9 (in), 5 I2C1 SCL/CAN RX/ D15/PB_8 (in), 6 I2C1 SDA/ RX / PB_7 (in), 7 I2C1 SCL/TX/D10/PB_6 (in), 8 PWM3_2/SPI1_MOSI/D4/PB_5 (in), 9 PWM3_1/SPI1_MISO/D5/PB_4 (in), 10 PWM2_2/SPI1_SCK/D3/PB_3 (in), 11 PWM2_1/SPI1_NSS/PA_15 (in), 12 CAN TX/PA_12 (in), 13 PWM1_4/CAN RX / PA_11 (in), 14 PWM1_3/ RX1 / D2/ PA_10 (in), 15 PWM1_2/ TX1 / D8 / PA_9 (in), 16 PWM1_1/ D7/ PA_8 (in), 17 PWM1_3N/ SPI2 MOSI/PB_15 (in), 18 PWM1_2N/ SPI2 MISO/ PB_14 (in), 19 PWM1_1N/ SPI2 SCK / PB_13 (in), 20 SPI2 NSS/ PB_12 (in)
part B pins: 21 GND (in), 22 GND (in), 23 +3.3V (in), 24 RESET (in), 25 PWM2_4 / I2C2 SDA / RX 3 / PB_11 (in), 26 PWM2_3/I2C2 SCL / TX3 / D6 /PB_10 (in), 27 PWM3_4/ ANALOG IN / PB_1 (in), 28 PWM3_3/ ANALOG IN/A3/ PB0 (in), 29 PWM3_2/ ANALOG IN/ SPI1 MOSI / D11/ PA_7 (in), 30 PWM3_1/ ANALOG IN/ SPI1 MISO / D12 /PA_6 (in), 31 ANALOG IN / SPI1 SCK /D13 / PA_5 (in), 32 ANALOG IN / SPI1 NSS/ A2 / PA_4 (in), 33 PWM2_4/ ANALOG IN /RX 2 / D0 / PA_3 (in), 34 PWM2_3/ ANALOG IN /TX 2 / D1 / PA_2 (in), 35 PMW 2_2/ANALOG IN/ A1 /PA_1 (in), 36 ANALOG IN / A0 / PA_0 (in), 37 PC_15 (in), 38 PC_14 (in), 39 PC_13 (in), 40 VBAT (in)
part C pins: 41 +3.3V (in), 42 DIO (in), 43 DCLK (in), 44 GND (in)

## MOD-STM_DISCOVERY
designator U?, comment STM DISCOVERY
Male Header Pin (Male Berg Strip); Manufacturer Part Number: NA; Case/Package: TH; Manufacturer: NA; Supplier-1: SP ROAD; Supplier Part Number-1: NA; Alternate Part Number-1: NA
footprint MOD_STM-DISCOVERY (STM DISCOVERY)
part A pins: P1 P1_GND, P2 P2_GND1, P3 P3_VDD, P4 P4_VDD1, P5 P5_GND2, P6 P6_NRST, P7 P7_PC1, P8 P8_PC0, P9 P9_PC3, P10 P10_PC2, P11 P11_PA1, P12 P12_PA0, P13 P13_PA3, P14 P14_PA2, P15 P15_PA5, P16 P16_PA4, P17 P17_PA7, P18 P18_PA6, P19 P19_PC5, P20 P20_PC4, P21 P21_PB1, P22 P22_PB0, P23 P23_GND3, P24 P24_PB2, P25 P25_PE7, P26 P26_PE8, P27 P27_PE9, P28 P28_PE10, P29 P29_PE11, P30 P30_PE12, P31 P31_PE13, P32 P32_PE14, P33 P33_PE15, P34 P34_PB10, P35 P35_PB11, P36 P36_PB12, P37 P37_PB13, P38 P38_PB14, P39 P39_PB15, P40 P40_PD8, P41 P41_PD9, P42 P42_PD10, P43 P43_PD11, P44 P44_PD12, P45 P45_PD13, P46 P46_PD14, P47 P47_PD15, P48 P48_NC, P49 P49_GND4, P50 P50_GND5
part B pins: P51 P51_GND6, P52 P52_GND7, P53 P53_5V_1, P54 P54_5V_2, P55 P55_3V_1, P56 P56_3V_2, P57 P57_PH0, P58 P58_PH1, P59 P59_PC14, P60 P60_PC15, P61 P61_PE6, P62 P62_PC13, P63 P63_PE4, P64 P64_PE5, P65 P65_PE2, P66 P66_PE3, P67 P67_PE0, P68 P68_PE1, P69 P69_PB8, P70 P70_PB9, P71 P71_BOOT0, P72 P72_VDD4, P73 P73_PB6, P74 P74_PB7, P75 P75_PB4, P76 P76_PB5, P77 P77_PD7, P78 P78_PB3, P79 P79_PD5, P80 P80_PD6, P81 P81_PD3, P82 P82_PD4, P83 P83_PD1, P84 P84_PD2, P85 P85_PC12, P86 P86_PD0, P87 P87_PC10, P88 P88_PC11, P89 P89_PA14, P90 P90_PA15, P91 P91_PA10, P92 P92_PA13, P93 P93_PA8, P94 P94_PA9, P95 P95_PC8, P96 P96_PC9, P97 P97_PC6, P98 P98_PC7, P99 P99_GND8, P100 P100_GND9

## MOD_LM822-1459-SMD
designator U?, comment LM822-1459
LM822 WiFi 802.11 b/g/n Module with IC Antenna; Manufacturer: LM TECHNOLOGIES; Alternate Part Number-1: NA; Manufacturer Part Number: LM822-1459; Case/Package: SMD; Supplier-1: Element 14; Supplier Part Number-1: 2857942
footprint MOD_LM822-1459 (9-Leads, Body 25.00x12.00mm, Pitch 2.00mm, IPC Medium Density)
pins: 1 LED_OUT, 2 GND, 3 USB_D+, 4 USB_D-, 5 VCC, 6 WPS or PDN, 7 GND, 8 RF, 9 GND

## MOD_PRJ-01-07-R070-CB-TH
designator U?, comment 16X2X3 STM_STANDALONE
Manufacturer Part Number: NA; Case/Package: TH; Manufacturer: NA; Supplier-1: SP ROAD; Supplier Part Number-1: NA; Alternate Part Number-1: NA
footprint MOD_PRJ-01-07-R070_TH_1 (STM Standalone)
part A pins: 7 7_PE2 (io), 8 8_PE3 (io), 9 9_PE4 (io), 10 10_PE5 (io), 11 11_PE6 (io), 12 12_PC13 (io), 13 13_PC15 (io), 17 17_PH1 (io), 18 18_PH0 (io), 19 19_PC0 (io), 21 21_PC2 (io), 22 22_PC1 (io), 23 23_PC3 (io), 24 24_PC14 (io), 27 27_PA2 (io), 28 28_PA1 (io), 29 29_PA3 (io), 31 31_PA5 (io), 32 32_PA4 (io), 35 35_PE1 (io), 37 37_PB9 (io), 38 38_PE0 (io), 39 39_BOOT0 (io), 41 41_PB6 (io)
part B pins: 40 40_PB8 (io), 42 42_PB7 (io), 43 43_PB4 (io), 44 44_PB5 (io), 45 45_PD7 (io), 47 47_PD5 (io), 48 48_PD6 (io), 49 49_PD3 (io), 50 50_PD4 (io), 51 51_PD1 (io), 54 54_PD0 (io), 57 57_PA12 (io), 58 58_PA15 (io), 60 60_PA11 (io), 61 61_PA8 (io), 63 63_PC8 (io), 64 64_PC9 (io), 67 67_PC4 (io), 68 68_PC5 (io), 69 69_PB0 (io), 70 70_PB1 (io), 71 71_PB2 (io), 72 72_PE7 (io), 73 73_PE8 (io)
part C pins: 20 20_NRST (io), 65 65_PA6 (io), 74 74_PE9 (io), 75 75_PE10 (io), 76 76_PE11 (io), 77 77_PE12 (io), 78 78_PE13 (io), 79 79_PE14 (io), 80 80_PE15 (io), 83 83_PB12 (io), 84 84_PB13 (io), 85 85_PB14 (io), 86 86_PB15 (io), 87 87_PD8 (io), 88 88_PD9 (io), 89 89_PD10 (io), 90 90_PD11 (io), 91 91_PD12 (io), 92 92_PD13 (io), 93 93_PD14 (io), 94 94_PD15 (io), 96 96_PC7 (io)
part D pins: 1 1_GND (io), 2 2_GND (io), 3 3_NC (io), 4 4_NC (io), 5 5_GND (io), 6 6_NC (io), 14 14_GND (io), 15 15_NC (io), 16 16_GND (io), 26 26_GND (io), 30 30_GND (io), 33 33_+5V (io), 34 34_GND (io), 36 36_VDDA (io)
part E pins: 52 52_PD2 (io), 53 53_PC12 (io), 55 55_PC10 (io), 56 56_PC11 (io), 59 59_PA10 (io), 62 62_PA9 (io)
part F pins: 25 25_PA0 (io), 46 46_PB3 (io), 66 66_PA7 (io), 95 95_PC6 (io)
part G pins: 81 81_PB10 (io), 82 82_PB11 (io)
part D text: Power and GNDs
part E text: UARTs
part F text: Encoders
part G text: I2C

## MOD_PRJ-01-07-R070-TH
designator U?, comment 16X2X3 STM_STANDALONE
Manufacturer Part Number: NA; Case/Package: TH; Manufacturer: NA; Supplier-1: SP ROAD; Supplier Part Number-1: NA; Alternate Part Number-1: NA
footprint MOD_PRJ-01-07-R070_TH (STM_STANDALONE)
part A pins: 1 1_GND (io), 2 2_GND (io), 3 3_NC (io), 4 4_NC (io), 5 5_GND (io), 6 6_NC (io), 7 7_PE2 (io), 8 8_PE3 (io), 9 9_PE4 (io), 10 10_PE5 (io), 11 11_PE6 (io), 12 12_PC13 (io), 13 13_PC15 (io), 14 14_GND (io), 15 15_NC (io), 16 16_GND (io), 17 17_PH1 (io), 18 18_PH0 (io), 19 19_PC0 (io), 20 20_NRST (io), 21 21_PC2 (io), 22 22_PC1 (io), 23 23_PC3 (io), 24 24_PC14 (io), 25 25_PA0 (io), 26 26_GND (io), 27 27_PA2 (io), 28 28_PA1 (io), 29 29_PA3 (io), 30 30_GND (io), 31 31_PA5 (io), 32 32_PA4 (io)
part B pins: 33 33_+5V (io), 34 34_GND (io), 35 35_PE1 (io), 36 36_VDDA (io), 37 37_PB9 (io), 38 38_PE0 (io), 39 39_BOOT0 (io), 40 40_PB8 (io), 41 41_PB6 (io), 42 42_PB7 (io), 43 43_PB4 (io), 44 44_PB5 (io), 45 45_PD7 (io), 46 46_PB3 (io), 47 47_PD5 (io), 48 48_PD6 (io), 49 49_PD3 (io), 50 50_PD4 (io), 51 51_PD1 (io), 52 52_PD2 (io), 53 53_PC12 (io), 54 54_PD0 (io), 55 55_PC10 (io), 56 56_PC11 (io), 57 57_PA12 (io), 58 58_PA15 (io), 59 59_PA10 (io), 60 60_PA11 (io), 61 61_PA8 (io), 62 62_PA9 (io), 63 63_PC8 (io), 64 64_PC9 (io)
part C pins: 65 65_PA6 (io), 66 66_PA7 (io), 67 67_PC4 (io), 68 68_PC5 (io), 69 69_PB0 (io), 70 70_PB1 (io), 71 71_PB2 (io), 72 72_PE7 (io), 73 73_PE8 (io), 74 74_PE9 (io), 75 75_PE10 (io), 76 76_PE11 (io), 77 77_PE12 (io), 78 78_PE13 (io), 79 79_PE14 (io), 80 80_PE15 (io), 81 81_PB10 (io), 82 82_PB11 (io), 83 83_PB12 (io), 84 84_PB13 (io), 85 85_PB14 (io), 86 86_PB15 (io), 87 87_PD8 (io), 88 88_PD9 (io), 89 89_PD10 (io), 90 90_PD11 (io), 91 91_PD12 (io), 92 92_PD13 (io), 93 93_PD14 (io), 94 94_PD15 (io), 95 95_PC6 (io), 96 96_PC7 (io)

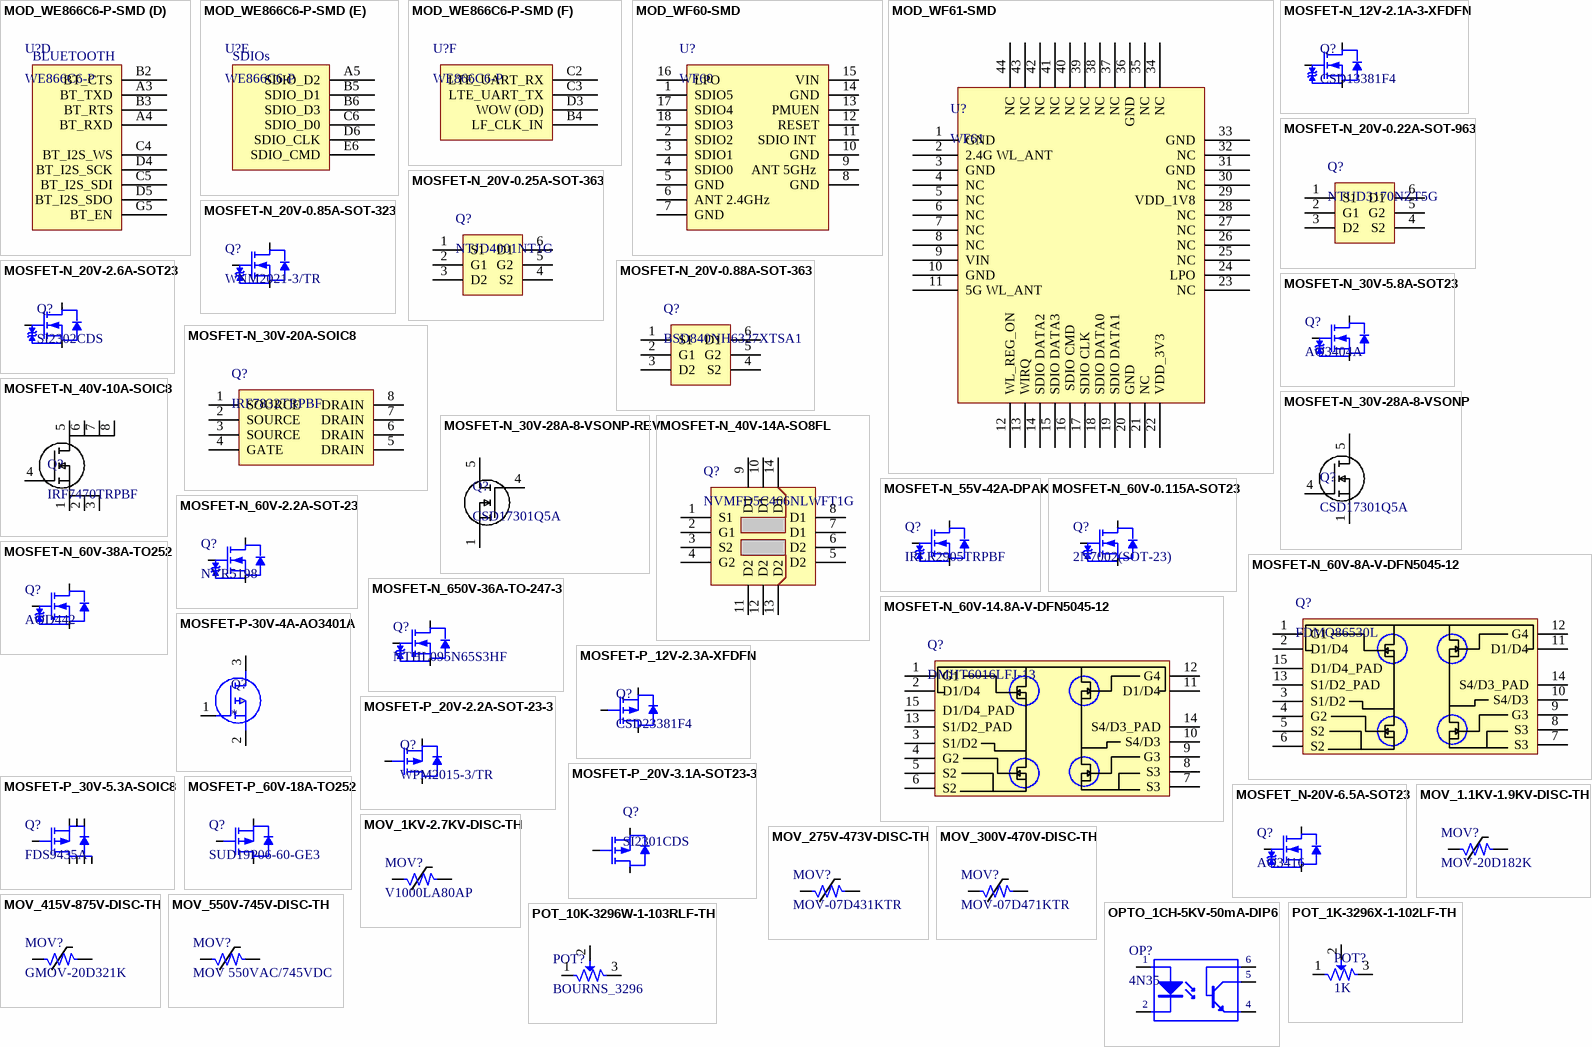
[diagram p13: symbols MOD_WE866C6-P-SMD to POT_10K-3296W-1-103RLF-TH]

## MOD_WE866C6-P-SMD
designator U?, comment WE866C6-P
WE866C6-P to its portfolio of Wi-Fi and Bluetooth modules.; Manufacturer: Telit; Alternate Part Number-1: NA; Manufacturer Part Number: WE866C6-P; Case/Package: SMD; Supplier-1: NA; Supplier Part Number-1: NA
footprint MOD_WE866C6-P (Telit Wifi Module)
part A pins: A6 GND, B0 GND, B1 GND, C0 GND, C1 GND, D1 GND, E0 GND, E1 GND, F0 GND, F1 GND, F2 GND, F3 GND, G1 GND, G3 GND, G6 GND
part B pins: D0 ANT1, D2 RFU, E2 RFU, E3 RFU, E4 RFU, E5 RFU, F4 RFU, F5 RFU, F6 RFU, G0 RFU, G2 RFU (ANT2)
part C pins: A0 VDD_3.3V, A1 VDD_3.3V, A2 VDDIO, G4 WL_EN
part D pins: A3 BT_TXD, A4 BT_RXD, B2 BT_CTS, B3 BT_RTS, C4 BT_I2S_WS, C5 BT_I2S_SDI, D4 BT_I2S_SCK, D5 BT_I2S_SDO, G5 BT_EN
part E pins: A5 SDIO_D2, B5 SDIO_D1, B6 SDIO_D3, C6 SDIO_D0, D6 SDIO_CLK, E6 SDIO_CMD
part F pins: B4 LF_CLK_IN, C2 LTE_UART_RX, C3 LTE_UART_TX, D3 WOW (OD)
part A text: GNDs
part B text: RFUs
part C text: POWER
part D text: BLUETOOTH
part E text: SDIOs

## MOD_WF60-SMD
designator U?, comment WF60
Amp’ed RF Tech presents the WF60 WiFi dual / band module: 802.11abgn.; Alternate Part Number-1: NA; Manufacturer: Amp’ed; Manufacturer Part Number: WF60; Case/Package: SMD; Supplier-1: Arrow; Supplier Part Number-1: WF60
footprint MOD_WF60 (17-Leads, Body 13.50x14.60mm, Pitch 1.50mm, IPC Medium Density)
pins: 1 SDIO5, 2 SDIO2, 3 SDIO1, 4 SDIO0, 5 GND, 6 ANT 2.4GHz, 7 GND, 8 GND, 9 ANT 5GHz , 10 GND, 11 SDIO INT , 12 RESET, 13 PMUEN, 14 GND, 15 VIN, 16 LPO, 17 SDIO4, 18 SDIO3

## MOD_WF61-SMD
designator U?, comment WF61
Amp’ed RF Tech presents the WF61 WiFi dual / band module: 802.11abgn.; Alternate Part Number-1: NA; Manufacturer: Amp’ed; Manufacturer Part Number: WF61; Case/Package: SMD; Supplier-1: Arrow; Supplier Part Number-1: WF61
footprint MOD_WF61 (44-Leads, Body 12.00x12.00mm, Pitch 0.90mm, IPC Medium Density)
pins: 1 GND, 2 2.4G WL_ANT, 3 GND, 4 NC, 5 NC, 6 NC, 7 NC, 8 NC, 9 VIN, 10 GND, 11 5G WL_ANT, 12 WL_REG_ON, 13 WIRQ, 14 SDIO DATA2, 15 SDIO DATA3, 16  SDIO CMD, 17 SDIO CLK, 18 SDIO DATA0, 19 SDIO DATA1, 20 GND, 21 NC, 22 VDD_3V3, 23 NC, 24 LPO, 25 NC, 26 NC, 27 NC, 28 NC, 29 VDD_1V8, 30 NC, 31 GND, 32 NC, 33 GND, 34 NC, 35 NC, 36 GND, 37 NC, 38 NC, 39 NC, 40 NC, 41 NC, 42 NC, 43 NC, 44 NC

## MOSFET-N_12V-2.1A-3-XFDFN
designator Q?, comment CSD13381F4
N-Channel 12V 2.1A (Ta) 500mW (Ta) Surface Mount 3-PICOSTAR; Manufacturer: Texas Instruments; Alternate Part Number-1: NA; Manufacturer Part Number: CSD13381F4; Case/Package: 3-XFDFN; Supplier-1: ARROW; Supplier Part Number-1: CSD13381F4
footprint XFDFN-3_13.7_62_19X9.8_SMD (P-MOSFET)
pins: 1 G, 2 S, 3 D

## MOSFET-N_20V-0.22A-SOT-963
designator Q?, comment NTUD3170NZT5G
Mosfet Array 2 N-Channel (Dual) 20V 220mA 125mW Surface Mount SOT-963; Manufacturer: ON Semiconductor; Alternate Part Number-1: NA; Manufacturer Part Number: NTUD3170NZT5G; Case/Package: SOT-963; Supplier-1: Mouser; Supplier Part Number-1: 863-NTUD3170NZT5G
footprint SOT963-6 (Mosfet)
pins: 1 S1, 2 G1, 3 D2, 4 S2, 5 G2, 6 D1

## MOSFET-N_20V-0.25A-SOT-363
designator Q?, comment NTJD4001NT1G
N-channel MOSFET Transistor, 0.25 A, 30 V, 6-pin SOT-363; Manufacturer: ON Semiconductor; Alternate Part Number-1: NA; Manufacturer Part Number: NTJD4001NT1G; Case/Package: SOT-363; Supplier-1: Arrow; Supplier Part Number-1: NTJD4001NT1G
footprint SOT363-6 (SOT363)
pins: 1 S1, 2 G1, 3 D2, 4 S2, 5 G2, 6 D1

## MOSFET-N_20V-0.85A-SOT-323
designator Q?, comment WNM2021-3/TR
N Channel 20V 820mA 850mV @ 250uA 310mΩ @ 550mA,4.5V 310mW SOT-323(SC-70) MOSFET RoHS; Manufacturer: WILLSEMI(Will Semicon); Alternate Part Number-1: NA; Manufacturer Part Number: WNM2021-3/TR; Case/Package: SOT-323; Supplier-1: LCSC; Supplier Part Number-1: C239556
footprint SOT 23-3 (Case: SOT23)
pins: 1 G, 2 S, 3 D

## MOSFET-N_20V-0.88A-SOT-363
designator Q?, comment BSD840NH6327XTSA1
Mosfet Array 2 N-Channel (Dual) 20V 880mA 500mW Surface Mount PG-SOT363-6; Manufacturer: Infineon Technologies; Alternate Part Number-1: NA; Manufacturer Part Number: BSD840NH6327XTSA1; Case/Package: SOT-363; Supplier-1: Arrow; Supplier Part Number-1: BSD840NH6327XTSA1
footprint SOT363-6 (SOT363)
pins: 1 S1, 2 G1, 3 D2, 4 S2, 5 G2, 6 D1

## MOSFET-N_20V-2.6A-SOT23
designator Q?, comment SI2302CDS
N-Channel 20V 2.6A (Ta) 710mW (Ta) Surface Mount SOT-23-3 (TO-236); Manufacturer: Vishay Siliconix; Manufacturer Part Number: SI2302CDS-T1-E3; Alternate Part Number-1: NA; Case/Package: SOT-23-3; Supplier-1: SUNROM; Supplier Part Number-1: SI2302CDS
footprint SOT 23-3
pins: 1 G, 2 S, 3 D

## MOSFET-N_30V-5.8A-SOT23
designator Q?, comment AO3404A
N-Channel 30V 5.8A (Ta) 1.4W (Ta) Surface Mount SOT-23-3L; Manufacturer: International Rectifier; Alternate Part Number-1: PMV50ENEAR; Manufacturer Part Number: AO3404A; Case/Package: SOT23; Supplier-1: ARROW; Supplier Part Number-1: AO3404A
footprint SOT 23-3
pins: 1 G, 2 S, 3 D

## MOSFET-N_30V-20A-SOIC8
designator Q?, comment IRF7832TRPBF
N-Channel 30V 20A (Ta) 2.5W (Ta) Surface Mount 8-SO; Manufacturer: Texas Instruments; Alternate Part Number-1: NA; Manufacturer Part Number: IRF7832TRPBF; Case/Package: SOIC8; Supplier-1: ARROW; Supplier Part Number-1: IRF7832TRPBF
footprint SOIC8_50_328_25X90_SMT (SOIC)
pins: 1 SOURCE "S", 2 SOURCE "S", 3 SOURCE "S", 4 GATE "G", 5 DRAIN "D", 6 DRAIN "D", 7 DRAIN "D", 8 DRAIN "D"

## MOSFET-N_30V-28A-8-VSONP
designator Q?, comment CSD17301Q5A
N-Channel 30V 28A (Ta), 100A (Tc) 3.2W (Ta) Surface Mount 8-VSONP (5x6); Manufacturer: Texas Instruments; Alternate Part Number-1: CSD17578Q3A; Manufacturer Part Number: CSD17301Q5A; Case/Package: 8-VSONP; Supplier-1: ARROW; Supplier Part Number-1: CSD17301Q5A
footprint VSONP-8_51_274_27X30_SMD (CASE: VSONP)
pins: 1 S, 4 G, 5

## MOSFET-N_30V-28A-8-VSONP-REV
designator Q?, comment CSD17301Q5A
N-Channel 30V 28A (Ta), 100A (Tc) 3.2W (Ta) Surface Mount 8-VSONP (5x6); Manufacturer: Alpha & Omega Semiconductor; Alternate Part Number-1: CSD17578Q3A; Manufacturer Part Number: CSD17301Q5A; Case/Package: 8-VSONP; Supplier-1: ARROW; Supplier Part Number-1: CSD17301Q5A
footprint VSONP-8_51_274_27X30_SMD
pins: 1 S, 4 G, 5 D

## MOSFET-N_40V-10A-SOIC8
designator Q?, comment IRF7470TRPBF
N-Channel 40V 10A (Ta) 2.5W (Ta) Surface Mount 8-SO; Manufacturer: International Rectifier; Alternate Part Number-1: FDS6690AS; Manufacturer Part Number: IRF7470TRPBF; Case/Package: SOIC8; Supplier-1: ARROW; Supplier Part Number-1: IRF7470TRPBF
footprint SO-8_50_299_31X98_SMD (SOIC, 8-Leads, Body 4.9x3.9mm, Pitch 1.27mm, IPC Low Density)
pins: 1 S, 2 5,6,7,12, 3 5,6,7,13, 4 G, 5 D, 6 5,6,7,9, 7 5,6,7,10, 8 5,6,7,11

## MOSFET-N_40V-14A-SO8FL
designator Q?, comment NVMFD5C466NLWFT1G
Mosfet Array 2 N-Channel (Dual) 40V 14A (Ta), 52A (Tc) 3W (Ta), 40W (Tc) Surface Mount 8-DFN (5x6) Dual Flag (SO8FL-Dual); Manufacturer: ON Semiconductor; Alternate Part Number-1: CEC2088E; Manufacturer Part Number: NVMFD5C466NLWFT1G; Case/Package: SO8FL; Supplier-1: ARROW; Supplier Part Number-1: NVMFD5C466NLWFT1G
footprint SO8FL_50_220_39X29_SMD (CASE: SO8FL)
pins: 1 S1, 2 G1, 3 S2, 4 G2, 5 D2, 6 D2, 7 D1, 8 D1, 9 D1, 10 D1, 11 D2, 12 D2, 13 D2, 14 D1

## MOSFET-N_55V-42A-DPAK
designator Q?, comment IRLR2905TRPBF
N-Channel 55V 42A (Tc) 110W (Tc) Surface Mount D-Pak; Manufacturer: International Rectifier; Alternate Part Number-1: NA; Manufacturer Part Number: IRLR2905TRPBF; Case/Package: DPAK; Supplier-1: ARROW; Supplier Part Number-1: IRLR2905TRPBF
footprint DPAK_118_446_112X59_SMD (CASE: DPAK)
pins: 1 G, 2 D, 3 S

## MOSFET-N_60V-0.115A-SOT23
designator Q?, comment 2N7002(SOT-23)
N-Channel 60V 115mA (Ta) 200mW (Ta) Surface Mount SOT-23; Manufacturer: MCC; Manufacturer Part Number: 2N7002-TP; Alternate Part Number-1: NA; Case/Package: SOT-23; Supplier-1: ARROW; Supplier Part Number-1: 2N7002-TP
footprint SOT 23-3
pins: 1 G, 2 S, 3 D

## MOSFET-N_60V-2.2A-SOT-23
designator Q?, comment NVR5198
N-Channel 60V 1.7A (Ta) 900mW (Ta) Surface Mount SOT-23-3 (TO-236); Manufacturer: Diodes; Manufacturer Part Number: NVR5198NLT1G; Alternate Part Number-1: NA; Case/Package: SOT-23; Supplier-1: LCSC; Supplier Part Number-1: C153742
footprint SOT 23-3
pins: 1 G, 2 S, 3 D

## MOSFET-N_60V-8A-V-DFN5045-12
designator Q?, comment FDMQ86530L
Mosfet Array 4 N-Channel 8A (Ta) Surface Mount V-DFN5045-12; Manufacturer: ON Semiconductor; Alternate Part Number-1: NA; Manufacturer Part Number: FDMQ86530L; Case/Package: DFN5045-12; Supplier-1: Arrow; Supplier Part Number-1: FDMQ86530L
footprint DFN5045-12_33_212_27X15_SMD_1 (CASE: DFN5045)
pins: 1 G1, 2 D1/D4, 3 S1/D2, 4 G2, 5 S2, 6 S2, 7 S3, 8 S3, 9 G3, 10 S4/D3, 11 D1/D4, 12 G4, 13 S1/D2_PAD, 14 S4/D3_PAD, 15 D1/D4_PAD

## MOSFET-N_60V-14.8A-V-DFN5045-12
designator Q?, comment DMHT6016LFJ-13
Mosfet Array 4 N-Channel 14.8A (Ta) Surface Mount V-DFN5045-12; Manufacturer: ON Semiconductor; Alternate Part Number-1: DMHT3006LFJ-13; Manufacturer Part Number: DMHT6016LFJ-13; Case/Package: DFN5045-12; Supplier-1: LCSC; Supplier Part Number-1: C460986
footprint DFN5045-12_33_212_27X15_SMD_1 (CASE: DFN5045)
pins: 1 G1, 2 D1/D4, 3 S1/D2, 4 G2, 5 S2, 6 S2, 7 S3, 8 S3, 9 G3, 10 S4/D3, 11 D1/D4, 12 G4, 13 S1/D2_PAD, 14 S4/D3_PAD, 15 D1/D4_PAD

## MOSFET-N_60V-38A-TO252
designator Q?, comment AOD442
N-Channel 60V 7A (Ta), 37A (Tc) 2.1W (Ta), 60W (Tc) Surface Mount TO-252, (D-Pak); Manufacturer: Alpha & Omega Semiconductor; Alternate Part Number-1: FDD8778; Manufacturer Part Number: AOD442; Case/Package: TO252; Supplier-1: LCSC; Supplier Part Number-1: C87617
footprint TO-252_181_255_118X62_SMD
pins: 1 G, 2 S, 3 D

## MOSFET-N_650V-36A-TO-247-3
designator Q?, comment NTHL095N65S3HF
N-Channel 650V 36A (Tc) 272W (Tc) Through Hole TO-247-3; Manufacturer: ON Semiconductor; Alternate Part Number-1: NA; Manufacturer Part Number: NTHL095N65S3HF; Supplier-1: Mouser; Supplier Part Number-1: 863-NTHL095N65S3HF; Case/Package: TO-247-3
footprint TO-247_216_55D137_TH_NH - duplicate (Power Mosfet)
pins: 1 G, 2 D, 3 S

## MOSFET-P-30V-4A-AO3401A
designator Q?
30V P-Channel MOSFET 4A Rdson = 85 mOhms
footprint P_channelMos_AO3401A
pins: 1 G, 2 S, 3 D

## MOSFET-P_12V-2.3A-XFDFN
designator Q?, comment CSD23381F4
P-Channel 12V 2.3A (Ta) 500mW (Ta) Surface Mount 3-PICOSTAR; Manufacturer: Texas Instruments; Alternate Part Number-1: NA; Manufacturer Part Number: CSD23381F4; Case/Package: XFDFN; Supplier-1: ARROW; Supplier Part Number-1: CSD23381F4
footprint XFDFN-3_13.7_62_19X9.8_SMD (P-MOSFET)
pins: 1 G, 2 S, 3 D

## MOSFET-P_20V-2.2A-SOT-23-3
designator Q?, comment WPM2015-3/TR
P Channel 20V 2.2A 810mV @ 250uA 110mΩ @ 2.7A,4.5V 800mW SOT-23(SOT-23-3) MOSFET RoHS; Manufacturer: WILLSEMI(Will Semicon); Alternate Part Number-1: NA; Manufacturer Part Number: WPM2015-3/TR; Case/Package: SOT-23; Supplier-1: LCSC; Supplier Part Number-1: C213159
footprint SOT 23-3 (Case: SOT23)
pins: 1 G, 2 S, 3 D

## MOSFET-P_20V-3.1A-SOT23-3
designator Q?, comment SI2301CDS
P-Channel 20V 3.1A (Tc) 860mW (Ta), 1.6W (Tc) Surface Mount SOT-23-3 (TO-236); Manufacturer: Vishay Siliconix; Alternate Part Number-1: NA; Manufacturer Part Number: SI2301CDS; Case/Package: SOT-23-3; Supplier-1: Arrow; Supplier Part Number-1: SI2301CDS-T1-GE3
footprint SOT 23-3 (Case: SOT23)
pins: 1 G, 2 S, 3 D

## MOSFET-P_30V-5.3A-SOIC8
designator Q?, comment FDS9435A
P-Channel 30V 5.3A (Ta) 2.5W (Ta) Surface Mount 8-SOIC; Manufacturer: ON Semiconductor / Fairchild; Alternate Part Number-1: DMG4435SSS-13; Manufacturer Part Number: FDS9435A; Case/Package: SOIC8; Supplier-1: SUNROM; Supplier Part Number-1: FDS9435A
footprint SOIC8_50_328_25X90_SMT (SOIC)
pins: 1 S, 2 S, 3 S, 4 G, 5 D, 6 D, 7 D, 8 D

## MOSFET-P_60V-18A-TO252
designator Q?, comment SUD19P06-60-GE3
P-Channel 60V 18.3A (Tc) 2.3W (Ta), 38.5W (Tc) Surface Mount TO-252, (D-Pak); Manufacturer: Vishay Siliconix; Alternate Part Number-1: DMP3028LK3-13; Manufacturer Part Number: SUD19P06-60-GE3; Case/Package: TO252; Supplier-1: Mouser; Supplier Part Number-1: 781-SUD19P06-60-GE3
footprint TO-252_181_255_118X62_SMD
pins: 1 G, 2 S, 3 D

## MOSFET_N-20V-6.5A-SOT23
designator Q?, comment AO3416
N-Channel 20V 6.5A (Ta) 1.4W (Ta) Surface Mount SOT-23-3L; Manufacturer: Alpha & Omega Semiconductor; Alternate Part Number-1: IRLML6244TRPBF; Manufacturer Part Number: AO3416; Case/Package: SOT-23; Supplier-1: SUNROM; Supplier Part Number-1: AO3416
footprint SOT 23-3
pins: 1 G, 2 S, 3 D

## MOV_1.1KV-1.9KV-DISC-TH
designator MOV?, comment MOV-20D182K
1.8kV 6.5kA Varistor 1 Circuit Through Hole Disc 20mm; Manufacturer: Littelfuse; Alternate Part Number-1: NA; Manufacturer Part Number: MOV-20D182K; Case/Package: TH; Supplier-1: CATLOG COMPONENTS; Supplier Part Number-1: MOV-20D182K
footprint MOV_P393_D1102_157X118_TH (MOV)
pins: 1, 2

## MOV_1KV-2.7KV-DISC-TH
designator MOV?, comment V1000LA80AP
1.65kV 4.5kA Varistor 1 Circuit Through Hole Disc 14mm; Manufacturer: Bourns; Alternate Part Number-1: NA; Manufacturer Part Number: V1000LA80AP; Case/Package: TH; Supplier-1: LCSC; Supplier Part Number-1: C187718
footprint MOV_P335_D551_157X118_TH (CASE: TH)
pins: 1, 2

## MOV_275V-473V-DISC-TH
designator MOV?, comment MOV-07D431KTR
430V 1.2kA Varistor 1 Circuit Through Hole Disc 7mm; Manufacturer: Bourns; Alternate Part Number-1: NA; Manufacturer Part Number: MOV-07D431KTR; Case/Package: TH; Supplier-1: Mouser; Supplier Part Number-1: 652-MOV-07D431KTR
footprint MOV_P295_D392_137X98_TH (MOV)
pins: 1, 2

## MOV_300V-470V-DISC-TH
designator MOV?, comment MOV-07D471KTR
470V 1.2kA Varistor 1 Circuit Through Hole Disc 7mm; Manufacturer: Bourns; Alternate Part Number-1: NA; Manufacturer Part Number: MOV-07D471KTR; Case/Package: TH; Supplier-1: CATLOG COMPONENTS; Supplier Part Number-1: MOV-07D431KTR
footprint MOV_P295_D392_137X98_TH (MOV)
pins: 1, 2

## MOV_415V-875V-DISC-TH
designator MOV?, comment GMOV-20D321K
GDT-MOV Hybrid Protection Component 10kA 415VDC/320VAC 2-Pin Radial Bulk; Manufacturer: Bourns; Alternate Part Number-1: NA; Manufacturer Part Number: GMOV-20D321K; Case/Package: TH; Supplier-1: Mouser; Supplier Part Number-1: 652-GMOV-20D321K
footprint MOV_P393_D1102_157X118_TH (MOV)
pins: 1, 2

## MOV_550V-745V-DISC-TH
designator MOV?, comment MOV 550VAC/745VDC
910V 4.5kA Varistor 1 Circuit Through Hole Disc 14mm; Manufacturer: TDK EPCOS; Manufacturer Part Number: B72214S0551K101; Alternate Part Number-1: NA; Case/Package: TH; Supplier-1: ARROW; Supplier Part Number-1: B72214S0551K101
footprint MOV_P335_D551_157X118_TH (CASE: TH)
pins: 1, 2

## OPTO_1CH-5KV-50mA-DIP6
designator OP?, comment 4N35
Optoisolator Transistor with Base Output 3550Vrms 1 Channel 6-SMD; Manufacturer: Vishay; Alternate Part Number-1: NA; Manufacturer Part Number: 4N35; Case/Package: DIP6; Supplier-1: SP ROAD; Supplier Part Number-1: 4N35
footprint DIP6_100_300_78X45_TH (CASE: DIP)
pins: 1 A "Anode", 2 K "Cathode", 4 E "Emitter", 5 C "Collector", 6 C "Collector"

## POT_1K-3296X-1-102LF-TH
designator POT?, comment 1K
1 kOhms 0.5W, 1/2W PC Pins Through Hole Trimmer Potentiometer Cermet 25 Turn Top Adjustment; Manufacturer: Bourns Inc.; Manufacturer Part Number: 3296X-1-102LF; Alternate Part Number-1: NA; Case/Package: TH; Supplier-1: LCSC; Supplier Part Number-1: C111779
footprint POT_BOURNS_3296W_TH (CASE: TH)
pins: 1, 2, 3

## POT_10K-3296W-1-103RLF-TH
designator POT?, comment BOURNS_3296
10 kOhms 0.5W, 1/2W PC Pins Through Hole Trimmer Potentiometer Cermet 25 Turn Top Adjustment; Manufacturer: Bourns; Manufacturer Part Number: 3296W-1-103RLF; Alternate Part Number-1: NA; Case/Package: TH; Supplier-1: SP ROAD; Supplier Part Number-1: 3296W-1-103RLF
footprint POT_BOURNS_3296W_TH (CASE: TH)
pins: 1, 2, 3

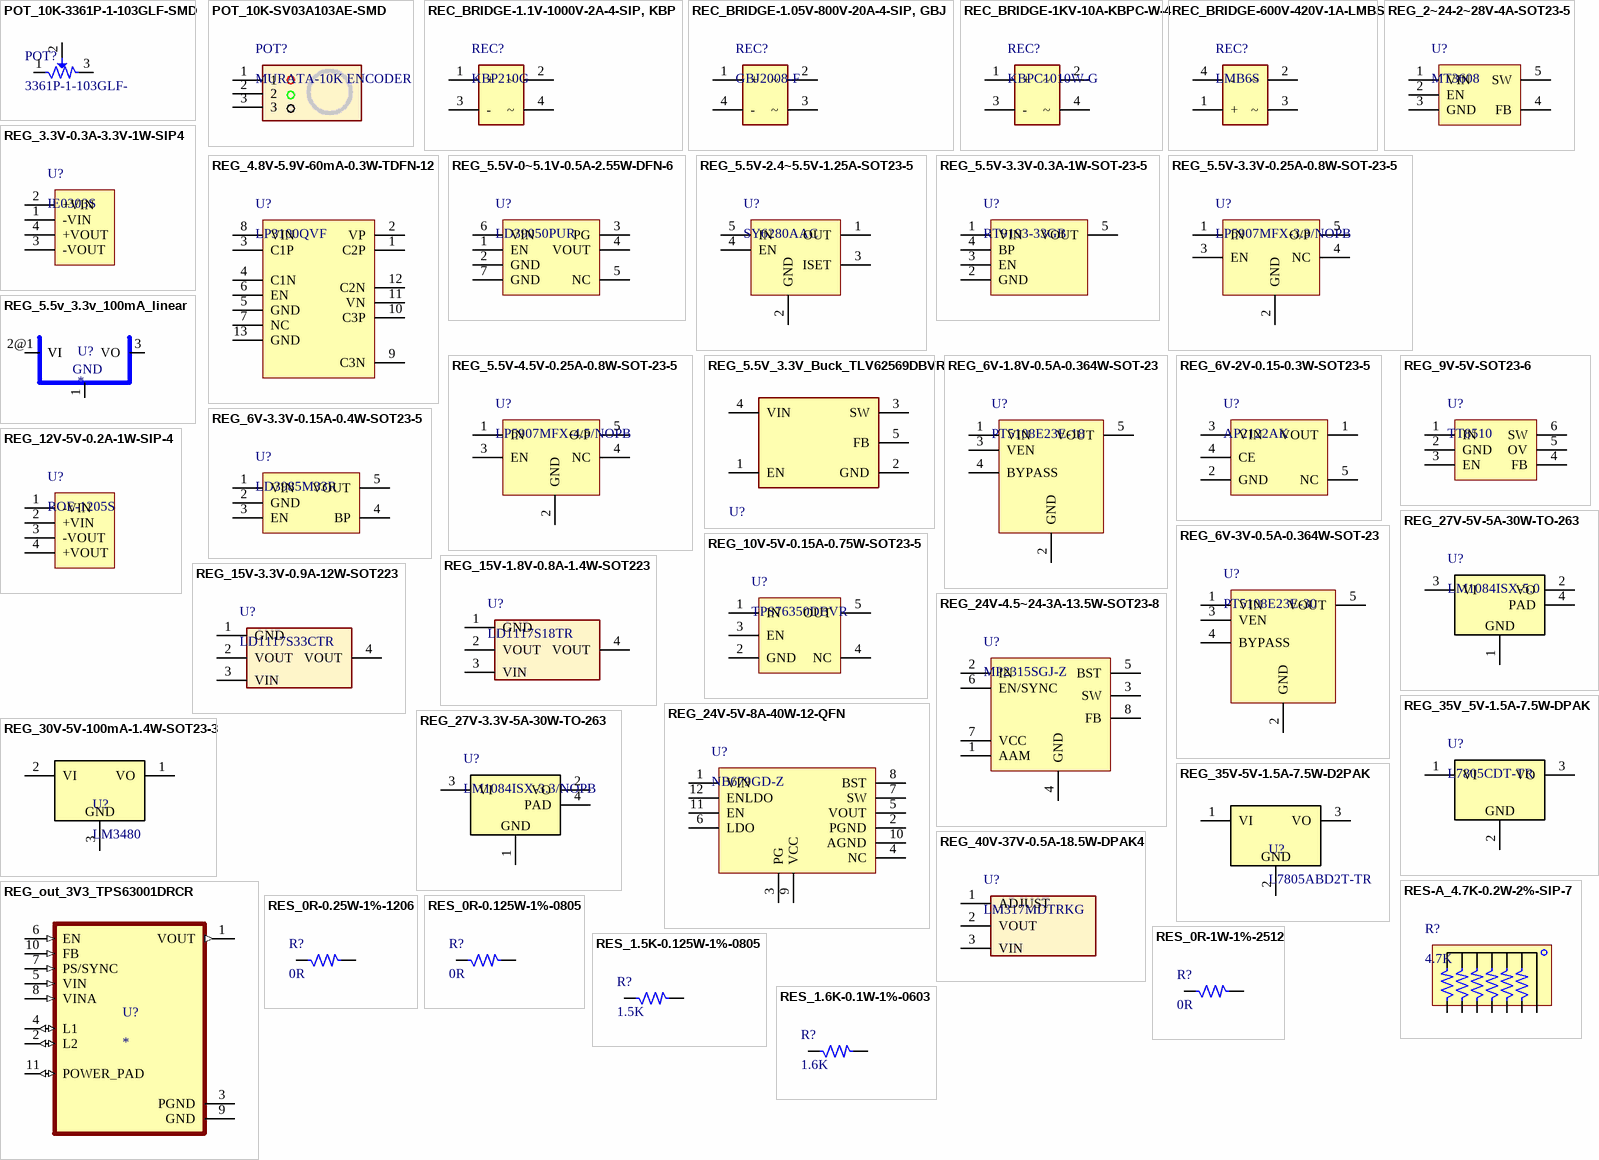
[diagram p14: symbols POT_10K-3361P-1-103GLF-SMD to RES_1.6K-0.1W-1%-0603]

## POT_10K-3361P-1-103GLF-SMD
designator POT?, comment 3361P-1-103GLF-
10 kOhms 0.5W, 1/2W Gull Wing Surface Mount Trimmer Potentiometer Cermet 1 Turn Top Adjustment; Manufacturer: Bourns; Alternate Part Number-1: NA; Manufacturer Part Number: 3361P-1-103GLF; Case/Package: SMD; Supplier-1: Mouser; Supplier Part Number-1: 652-3361P-1-103GLF
footprint POT_3361P_SMD
pins: 1, 2, 3

## POT_10K-SV03A103AE-SMD
designator POT?, comment MURATA-10K ENCODER
Resistive Sensor Rotary Position Hole for Shaft SMD (SMT) Tab; Manufacturer: Murata; Manufacturer Part Number: SV03A103AEA01R00; Alternate Part Number-1: NA; Case/Package: SMD; Supplier-1: ARROW; Supplier Part Number-1: SV03A103AEA01R00
footprint POT_50_974X665_SMD
pins: 1, 2, 3

## REC_BRIDGE-1.1V-1000V-2A-4-SIP, KBP
designator REC?, comment KBP210G
Bridge Rectifier Single Phase Standard 1kV Through Hole KBP; Manufacturer: Comchip; Alternate Part Number-1: NA; Manufacturer Part Number: KBP210G; Case/Package: SIP4; Supplier-1: ARROW; Supplier Part Number-1: KBP210G
footprint SIP4_49_127X236_TH
pins: 1 +, 2 ~, 3 -, 4 ~

## REC_BRIDGE-1.05V-800V-20A-4-SIP, GBJ
designator REC?, comment GBJ2008-F
Bridge Rectifier Single Phase Standard 800V Through Hole GBJ; Manufacturer: Diodes; Alternate Part Number-1: NA; Manufacturer Part Number: GBJ2008-F; Case/Package: SIP4; Supplier-1: LCSC; Supplier Part Number-1: C266407
footprint RECT_403_1279_98D70_TH
pins: 1 +, 2 ~, 3 ~, 4 -

## REC_BRIDGE-1KV-10A-KBPC-W-4
designator REC?, comment KBPC1010W-G
Bridge Rectifier Single Phase Standard 1kV Through Hole KBPC-W; Manufacturer: Diodes; Alternate Part Number-1: NA; Manufacturer Part Number: KBPC1010W-G; Case/Package: KBPC-W-4; Supplier-1: MOUSER; Supplier Part Number-1: KBPC1010W-G
footprint RECT_492_771X771_TH (1000V 10A 12.5mm Pitch)
footprint RECT_492_771X771_TH-HT
pins: 1 +, 2 ~, 3 -, 4 ~

## REC_BRIDGE-600V-420V-1A-LMBS
designator REC?, comment LMB6S
Bridge Rectifier Single Phase Standard 600V Surface Mount LMBS-1; Manufacturer: MCC; Manufacturer Part Number: LMB6S-TP; Alternate Part Number-1: NA; Case/Package: SMD/SMT; Supplier-1: LCSC; Supplier Part Number-1: C151750
footprint REC_LMB6S-TP (RECTIFIER)
pins: 1 +, 2 ~, 3 ~, 4 -